# Altium schematic symbol library SFT_V4.SchLib: 92 symbols (part 1 of 2)
Pins are listed as number, name and electrical type; pins without a type are passive.

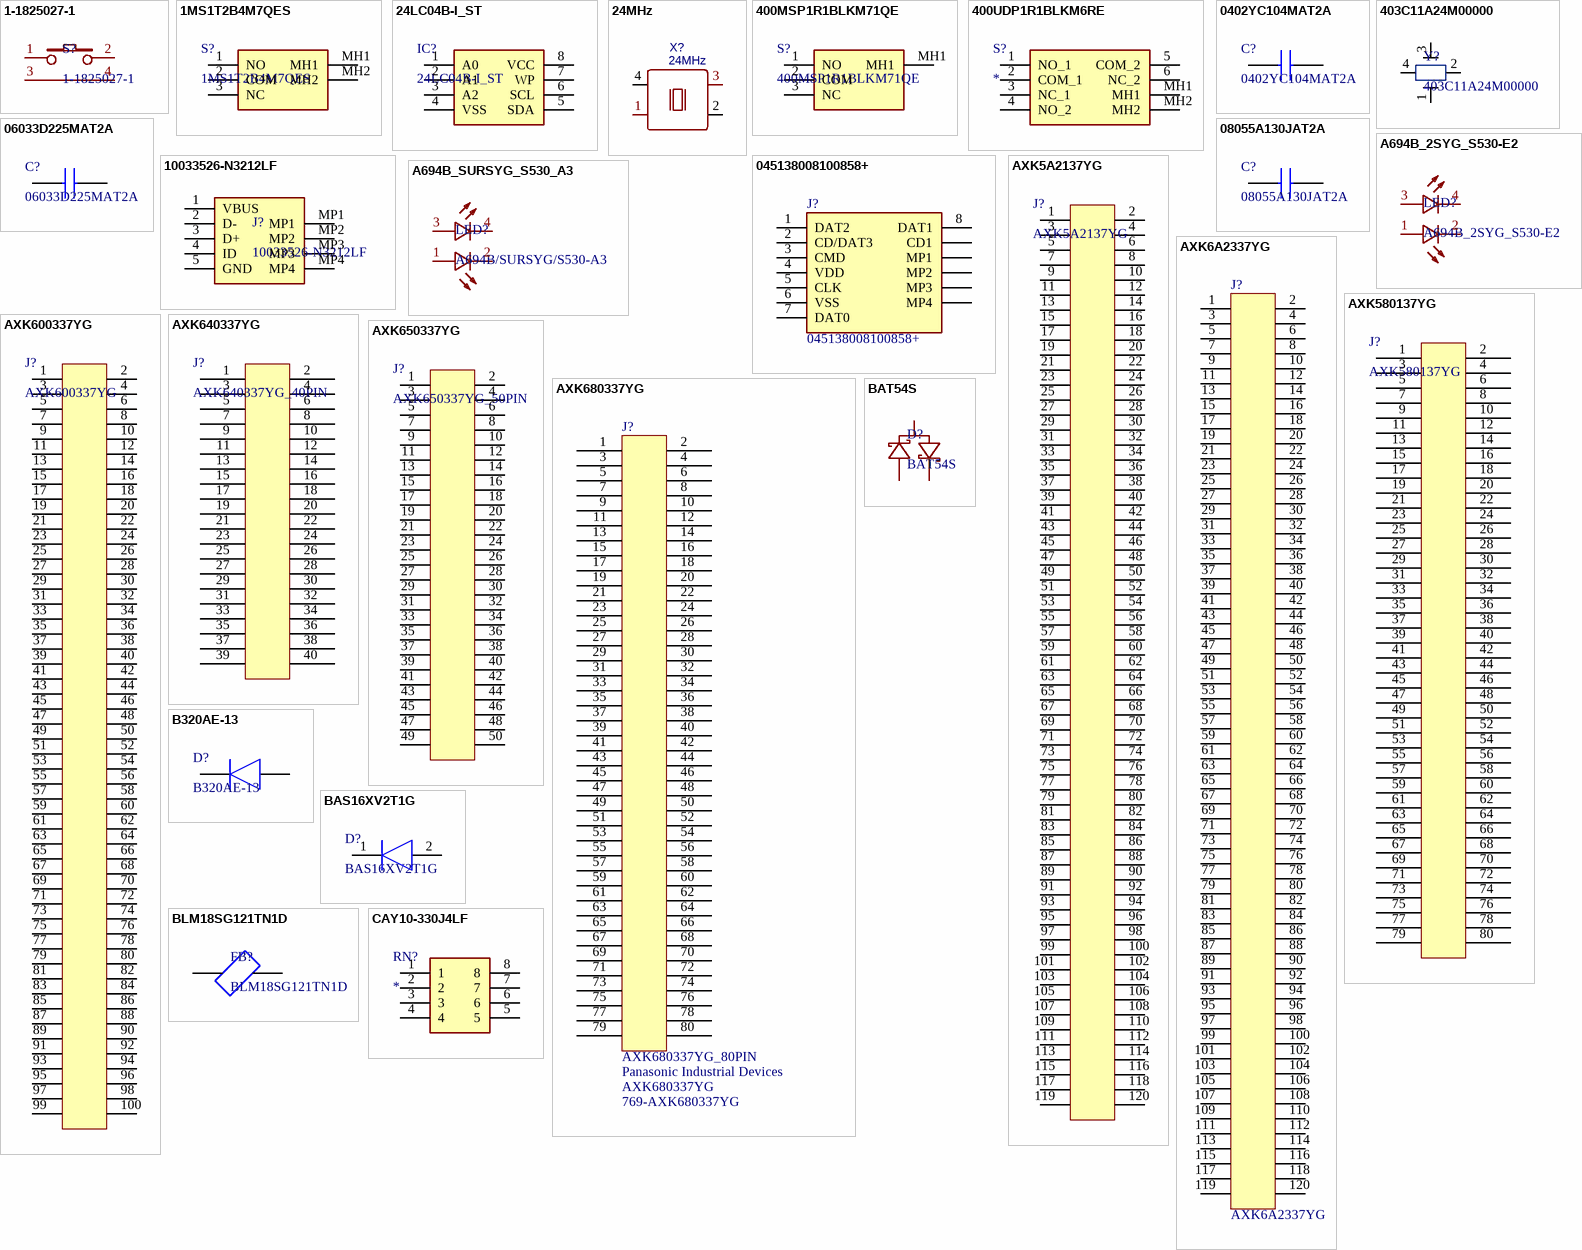
[diagram p0: symbols 1-1825027-1 to CAY10-330J4LF]

## 1-1825027-1
designator S?
Switch; Manufacturer_Name: TE Connectivity; Manufacturer_Part_Number: FSMRA4JH04; Datasheet Link: https://www.te.com/commerce/DocumentDelivery/DDEController?Action=srchrtrv&DocNm=1308111-1_SWITCHES_CORE_PROGRAM_CATALOG&DocType=CS&DocLang=English; Height: 7.01mm; Mouser Part Number: 506-FSMRA4JH04; Mouser Price/Stock: https://www.mouser.co.uk/ProductDetail/TE-Connectivity-Alcoswitch/FSMRA4JH04?qs=65SUpkGmTbapQKkEnx7SmQ%3D%3D; Arrow Part Number: 1-1825027-1; Arrow Price/Stock: https://www.arrow.com/en/products/1-1825027-1/te-connectivity
footprint 1825027-5
pins: 1, 2, 3 MH1, 4 MH2

## 1MS1T2B4M7QES
designator S?
Switch; Manufacturer_Name: Dailywell; Datasheet Link: https://eu.mouser.com/datasheet/2/979/Dailywell_10082019_1M_Series-1660460.pdf; Height: 12.7mm; Manufacturer_Part_Number: 1MS1T2B4M7QES; Mouser Part Number: 118-1MS1T2B4M7QES; Mouser Price/Stock: https://www.mouser.co.uk/ProductDetail/Dailywell/1MS1T2B4M7QES?qs=B6kkDfuK7%2FDAzh1Hupc3FQ%3D%3D
footprint 1MS1T2B4M7QES
pins: 1 NO, 2 COM, 3 NC, MH1, MH2

## 24LC04B-I_ST
designator IC?
Integrated Circuit; Manufacturer_Name: Microchip; Manufacturer_Part_Number: 24LC04B-I/ST; Datasheet Link: http://www.microchip.com/mymicrochip/filehandler.aspx?ddocname=en011857; Height: 1.1mm; Mouser Part Number: 579-24LC04B-I/ST; Mouser Price/Stock: https://www.mouser.co.uk/ProductDetail/Microchip-Technology/24LC04B-I-ST?qs=qUiwOUCta0cszSu5zjMtgA%3D%3D; Arrow Part Number: 24LC04B-I/ST; Arrow Price/Stock: https://www.arrow.com/en/products/24lc04b-ist/microchip-technology
footprint SOP65P490X110-8N
pins: 1 A0, 2 A1, 3 A2, 4 VSS, 5 SDA, 6 SCL, 7 WP, 8 VCC

## 24MHz
designator X?
BOM_Manufacturer: TAITIEN Elec; BOM_Manufacturer Part: OXETGLJANF-24MHZ; nameAlias: Frequency; Contributor: LCSC; BOM_Supplier: LCSC; BOM_Supplier Part: C295524; BOM_JLCPCB Part Class: Extended Part; spicePre: X; spiceSymbolName: OXETGLJANF-24MHZ
footprint OSC-SMD_4P-L3.2-W2.5-BL
pins: 1 tri, 2 GND, 3 OUT, 4 VCC

## 400MSP1R1BLKM71QE
designator S?
Rocket Switch; Manufacturer_Name: Dailywell; Manufacturer_Part_Number: 1MS1T2B4M7QES; Datasheet Link: https://eu.mouser.com/datasheet/2/979/Dailywell_10082019_1M_Series-1660460.pdf; Height: 12.7mm; Mouser Part Number: 118-1MS1T2B4M7QES; Mouser Price/Stock: https://www.mouser.co.uk/ProductDetail/Dailywell/1MS1T2B4M7QES?qs=B6kkDfuK7%2FDAzh1Hupc3FQ%3D%3D
footprint 400MSP1R1BLKM71QE
pins: 1 NO, 2 COM, 3 NC, MH1

## 400UDP1R1BLKM6RE
designator S?
Switch; Manufacturer_Name: E-Switch; Manufacturer_Part_Number: 400UDP1R1BLKM6RE; Datasheet Link: http://spec_sheets.e-switch.com/specs/T480001.pdf; Height: 5.6mm; Mouser Part Number: 612-400UDP1R1BLKM6RE; Mouser Price/Stock: https://www.mouser.co.uk/ProductDetail/E-Switch/400UDP1R1BLKM6RE?qs=nHKQP18abP9OIqkqYZA1ag%3D%3D
footprint 400UDP1R1BLKM6RE
pins: 1 NO_1, 2 COM_1, 3 NC_1, 4 NO_2, 5 COM_2, 6 NC_2, MH1, MH2

## 0402YC104MAT2A
designator C?
Capacitor; Manufacturer_Name: AVX; Datasheet Link: http://www.mouser.com/catalog/supplier/library/pdf/AVXSurfaceMountCeramic.pdf; Height: 0.56mm; Manufacturer_Part_Number: 0402YC104MAT2A; Mouser Part Number: 581-0402YC104MAT2A; Mouser Price/Stock: https://www.mouser.co.uk/ProductDetail/AVX/0402YC104MAT2A?qs=O2%2FeDh0sX9yiCaLwpXy1bw%3D%3D
footprint CAP_0402
pins: 1, 2

## 403C11A24M00000
designator Y?
Crystal or Oscillator; Manufacturer_Name: CTS; Datasheet Link: https://datasheet.datasheetarchive.com/originals/dk/DKDS-12/236325.pdf; Height: 0.75mm; Manufacturer_Part_Number: 403C11A24M00000; Mouser Part Number: 774-403C11A24M00000; Mouser Price/Stock: https://www.mouser.co.uk/ProductDetail/CTS-Electronic-Components/403C11A24M00000?qs=9D%2FjjU8ZSZ6G6K4SP5chGw%3D%3D; Arrow Part Number: 403C11A24M00000; Arrow Price/Stock: https://www.arrow.com/en/products/403c11a24m00000/cts
footprint 403C11A20M00000
pins: 1 CRYSTAL_1, 2 GND_1, 3 CRYSTAL_2, 4 GND_2

## 06033D225MAT2A
designator C?
Capacitor; Manufacturer_Name: AVX; Datasheet Link: https://componentsearchengine.com/Datasheets/1/06031A100FAT2A.pdf; Height: 0.9mm; Manufacturer_Part_Number: 06033D225MAT2A; Mouser Part Number: 581-06033D225MAT2A; Mouser Price/Stock: https://www.mouser.co.uk/ProductDetail/AVX/06033D225MAT2A?qs=%252BdQmOuGyFcGllV0VA4zyxA%3D%3D
footprint CAPC1608X90N
pins: 1, 2

## 08055A130JAT2A
designator C?
Capacitor; Manufacturer_Name: AVX; Datasheet Link: https://componentsearchengine.com/Datasheets/1/06031A100FAT2A.pdf; Height: 0.94mm; Manufacturer_Part_Number: 08055A130JAT2A; Mouser Part Number: 581-08055A130JAT2A; Mouser Price/Stock: https://www.mouser.com/Search/Refine.aspx?Keyword=581-08055A130JAT2A
footprint CAPC2012X94N
pins: 1, 2

## 10033526-N3212LF
designator J?
Connector; Manufacturer_Name: Amphenol; Datasheet Link: https://www.amphenol-icc.com/media/wysiwyg/files/drawing/10033526.pdf; Height: 4.15mm; Manufacturer_Part_Number: 10033526-N3212LF; Mouser Part Number: 649-10033526-N3212LF; Mouser Price/Stock: https://www.mouser.co.uk/ProductDetail/Amphenol-FCI/10033526-N3212LF?qs=LmzVcvYPptRTPTxae6JWyQ%3D%3D; Arrow Part Number: 10033526-N3212LF; Arrow Price/Stock: https://www.arrow.com/en/products/10033526-n3212lf/amphenol-fci?region=nac
footprint 10033526N3212LF
pins: 1 VBUS, 2 D-, 3 D+, 4 ID, 5 GND, MP1, MP2, MP3, MP4

## 045138008100858+
designator J?
Connector; Manufacturer_Name: AVX; Datasheet Link: https://www.mouser.sg/datasheet/2/909/5138-1359342.pdf; Height: 1.4mm; Manufacturer_Part_Number: 045138008100858+; Mouser Price/Stock: https://www.mouser.com/Search/Refine.aspx?Keyword=581-045138008100858%2B; Arrow Part Number: 045138008100858+; Arrow Price/Stock: https://www.arrow.com/en/products/045138008100858/avx; Mouser Part Number: 581-045138008100858+
footprint TF01A
footprint 045138008100858
pins: 1 DAT2, 2 CD/DAT3, 3 CMD, 4 VDD, 5 CLK, 6 VSS, 7 DAT0, 8 DAT1, CD1, MP1, MP2, MP3, MP4

## A694B_2SYG_S530-E2
designator LED?
LED; Manufacturer_Name: Everlight; Manufacturer_Part_Number: A694B/2SYG/S530-E2; Datasheet Link: https://datasheet.datasheetarchive.com/originals/distributors/Datasheets-3/DSA-53330.pdf; Height: 9.9mm; Mouser Part Number: 638-A694B2SYGS530E2; Mouser Price/Stock: https://www.mouser.com/Search/Refine.aspx?Keyword=638-A694B2SYGS530E2
footprint A694B2SYGS530E2
pins: 1 A1, 2 K1, 3 A2, 4 K2

## A694B_SURSYG_S530_A3
designator LED?, comment A694B/SURSYG/S530-A3
LED; Manufacturer_Name: Everlight; Datasheet Link: https://datasheet.datasheetarchive.com/originals/distributors/Datasheets-3/DSA-53330.pdf; Height: 9.9mm; Manufacturer_Part_Number: A694B/SURSYG/S530-A3
footprint A694B_SURSYG_S530_A3
pins: 1 A1, 2 K1, 3 A2, 4 K2

## AXK5A2137YG
designator J?
Connector; Manufacturer_Name: Panasonic Industrial Devices; Manufacturer_Part_Number: AXK5A2137YG; Mouser Part Number: 769-AXK5A2137YG
footprint AXK5A2137YG
pins: 1, 2, 3, 4, 5, 6, 7, 8, 9, 10, 11, 12, 13, 14, 15, 16, 17, 18, 19, 20, 21, 22, 23, 24, 25, 26, 27, 28, 29, 30, 31, 32, 33, 34, 35, 36, 37, 38, 39, 40, 41, 42, 43, 44, 45, 46, 47, 48, 49, 50, 51, 52, 53, 54, 55, 56, 57, 58, 59, 60, 61, 62, 63, 64, 65, 66, 67, 68, 69, 70, 71, 72, 73, 74, 75, 76, 77, 78, 79, 80, 81, 82, 83, 84, 85, 86, 87, 88, 89, 90, 91, 92, 93, 94, 95, 96, 97, 98, 99, 100, 101, 102, 103, 104, 105, 106, 107, 108, 109, 110, 111, 112, 113, 114, 115, 116, 117, 118, 119, 120

## AXK6A2337YG
designator J?
Board to Board & Mezzanine Connectors CONN HEADER BRD/BRD 120 POS 0.5mm; Manufacturer_Name: Panasonic Industrial Devices; ComponentLink1Description: Datasheet Link; ComponentLink1URL: https://www.mouser.co.uk/datasheet/2/315/AXK-1196653.pdf; Manufacturer_Part_Number: AXK6A2337YG; Mouser Part Number: 769-AXK6A2337YG
footprint AXK6A2337YG
pins: 1, 2, 3, 4, 5, 6, 7, 8, 9, 10, 11, 12, 13, 14, 15, 16, 17, 18, 19, 20, 21, 22, 23, 24, 25, 26, 27, 28, 29, 30, 31, 32, 33, 34, 35, 36, 37, 38, 39, 40, 41, 42, 43, 44, 45, 46, 47, 48, 49, 50, 51, 52, 53, 54, 55, 56, 57, 58, 59, 60, 61, 62, 63, 64, 65, 66, 67, 68, 69, 70, 71, 72, 73, 74, 75, 76, 77, 78, 79, 80, 81, 82, 83, 84, 85, 86, 87, 88, 89, 90, 91, 92, 93, 94, 95, 96, 97, 98, 99, 100, 101, 102, 103, 104, 105, 106, 107, 108, 109, 110, 111, 112, 113, 114, 115, 116, 117, 118, 119, 120

## AXK580137YG
designator J?
Connector; Manufacturer_Name: Panasonic Industrial Devices; Manufacturer_Part_Number: AXK580137YG; Mouser Part Number: 769-AXK580137YG
footprint AXK580147YG (AXK5A2137YG)
pins: 1, 2, 3, 4, 5, 6, 7, 8, 9, 10, 11, 12, 13, 14, 15, 16, 17, 18, 19, 20, 21, 22, 23, 24, 25, 26, 27, 28, 29, 30, 31, 32, 33, 34, 35, 36, 37, 38, 39, 40, 41, 42, 43, 44, 45, 46, 47, 48, 49, 50, 51, 52, 53, 54, 55, 56, 57, 58, 59, 60, 61, 62, 63, 64, 65, 66, 67, 68, 69, 70, 71, 72, 73, 74, 75, 76, 77, 78, 79, 80

## AXK600337YG
designator J?
Connector
footprint AXK600337YG (AXK6A2337YG)
pins: 1, 2, 3, 4, 5, 6, 7, 8, 9, 10, 11, 12, 13, 14, 15, 16, 17, 18, 19, 20, 21, 22, 23, 24, 25, 26, 27, 28, 29, 30, 31, 32, 33, 34, 35, 36, 37, 38, 39, 40, 41, 42, 43, 44, 45, 46, 47, 48, 49, 50, 51, 52, 53, 54, 55, 56, 57, 58, 59, 60, 61, 62, 63, 64, 65, 66, 67, 68, 69, 70, 71, 72, 73, 74, 75, 76, 77, 78, 79, 80, 81, 82, 83, 84, 85, 86, 87, 88, 89, 90, 91, 92, 93, 94, 95, 96, 97, 98, 99, 100

## AXK640337YG
designator J?, comment AXK640337YG_40PIN
Connector
footprint AXK650337YG (AXK6A2337YG)
pins: 1, 2, 3, 4, 5, 6, 7, 8, 9, 10, 11, 12, 13, 14, 15, 16, 17, 18, 19, 20, 21, 22, 23, 24, 25, 26, 27, 28, 29, 30, 31, 32, 33, 34, 35, 36, 37, 38, 39, 40

## AXK650337YG
designator J?, comment AXK650337YG_50PIN
Connector
footprint AXK650337YG (AXK6A2337YG)
pins: 1, 2, 3, 4, 5, 6, 7, 8, 9, 10, 11, 12, 13, 14, 15, 16, 17, 18, 19, 20, 21, 22, 23, 24, 25, 26, 27, 28, 29, 30, 31, 32, 33, 34, 35, 36, 37, 38, 39, 40, 41, 42, 43, 44, 45, 46, 47, 48, 49, 50

## AXK680337YG
designator J?, comment AXK680337YG_80PIN  Manufacturer_Name: Panasonic Industrial Devices  Manufacturer_Part_Number: AXK680337YG  Mouser Part Number: 769-AXK680337YG
Board to Board & Mezzanine Connectors CONN HEADER BRD/BRD 80 POS 0.5mm
footprint AXK680337YG (AXK680337YG_80PIN)
pins: 1, 2, 3, 4, 5, 6, 7, 8, 9, 10, 11, 12, 13, 14, 15, 16, 17, 18, 19, 20, 21, 22, 23, 24, 25, 26, 27, 28, 29, 30, 31, 32, 33, 34, 35, 36, 37, 38, 39, 40, 41, 42, 43, 44, 45, 46, 47, 48, 49, 50, 51, 52, 53, 54, 55, 56, 57, 58, 59, 60, 61, 62, 63, 64, 65, 66, 67, 68, 69, 70, 71, 72, 73, 74, 75, 76, 77, 78, 79, 80

## B320AE-13
designator D?
Diode; Manufacturer_Name: Diodes Inc.; Datasheet Link: http://www.mouser.com/ds/2/115/ds30891-89887.pdf; Height: 2.3mm; Manufacturer_Part_Number: B320AE-13; Mouser Part Number: 621-B320AE-13; Mouser Price/Stock: https://www.mouser.co.uk/ProductDetail/Diodes-Incorporated/B320AE-13?qs=AQlKX63v8RvRuCl5kwaWYg%3D%3D; Arrow Part Number: B320AE-13; Arrow Price/Stock: https://www.arrow.com/en/products/b320ae-13/diodes-incorporated
footprint DIONM5226X230N
pins: 1 K, 2 A

## BAS16XV2T1G
designator D?
Diode; Manufacturer_Name: ON Semiconductor; Datasheet Link: http://www.onsemi.com/pub/Collateral/BAS16XV2T1-D.PDF; Height: 0.7mm; Manufacturer_Part_Number: BAS16XV2T1G; Mouser Part Number: 863-BAS16XV2T1G; Mouser Price/Stock: https://www.mouser.co.uk/ProductDetail/ON-Semiconductor/BAS16XV2T1G?qs=vLkC5FC1VN%2F9AQiVzTiohw%3D%3D; Arrow Part Number: BAS16XV2T1G; Arrow Price/Stock: https://www.arrow.com/en/products/bas16xv2t1g/on-semiconductor?region=nac
footprint SODFL1608X70N
pins: 1 K, 2 A

## BAT54S
designator D?
Schottky Diode; Manufacturer_Name: ON Semiconductor; Datasheet Link: http://www.onsemi.com/pub/Collateral/BAT54S-D.pdf; Height: 1.2mm; Manufacturer_Part_Number: BAT54S; Mouser Part Number: 512-BAT54S; Mouser Price/Stock: https://www.mouser.co.uk/ProductDetail/ON-Semiconductor-Fairchild/BAT54S?qs=WjC1ij5gCHN3lvcpF9iNwQ%3D%3D; Arrow Part Number: BAT54S; Arrow Price/Stock: https://www.arrow.com/en/products/bat54s/on-semiconductor
footprint SOT95P240X120-3N
pins: 1 A, 2 K, 3

## BLM18SG121TN1D
designator FB?
Ferrite Bead; Manufacturer_Name: Murata Electronics; Datasheet Link: https://www.murata.com/en-us/products/productdetail?partno=BLM18SG121TN1%23; Height: 0.75mm; Manufacturer_Part_Number: BLM18SG121TN1D; Mouser Part Number: 81-BLM18SG121TN1D; Mouser Price/Stock: https://www.mouser.co.uk/ProductDetail/Murata-Electronics/BLM18SG121TN1D?qs=OMB6gcCnelWdy%252B7xRA0fBw%3D%3D; Arrow Part Number: BLM18SG121TN1D; Arrow Price/Stock: https://www.arrow.com/en/products/blm18sg121tn1d/murata-manufacturing?region=nac
footprint BLM18SG121TN1J
pins: 1, 2

## CAY10-330J4LF
designator RN?
Resistor Network; Manufacturer_Name: Bourns; Manufacturer_Part_Number: CAY10-330J4LF; Datasheet Link: https://www.bourns.com/docs/Product-Datasheets/CAY10.pdf; Mouser Part Number: 652-CAY10-330J4LF; Mouser Price/Stock: https://www.mouser.co.uk/ProductDetail/Bourns/CAY10-330J4LF?qs=Rsc32mLZm2WgHph2r1aqpQ%3D%3D; Arrow Part Number: CAY10-330J4LF; Arrow Price/Stock: https://www.arrow.com/en/products/cay10-330j4lf/bourns
footprint CAY10-XXXJ4
pins: 1, 2, 3, 4, 5, 6, 7, 8

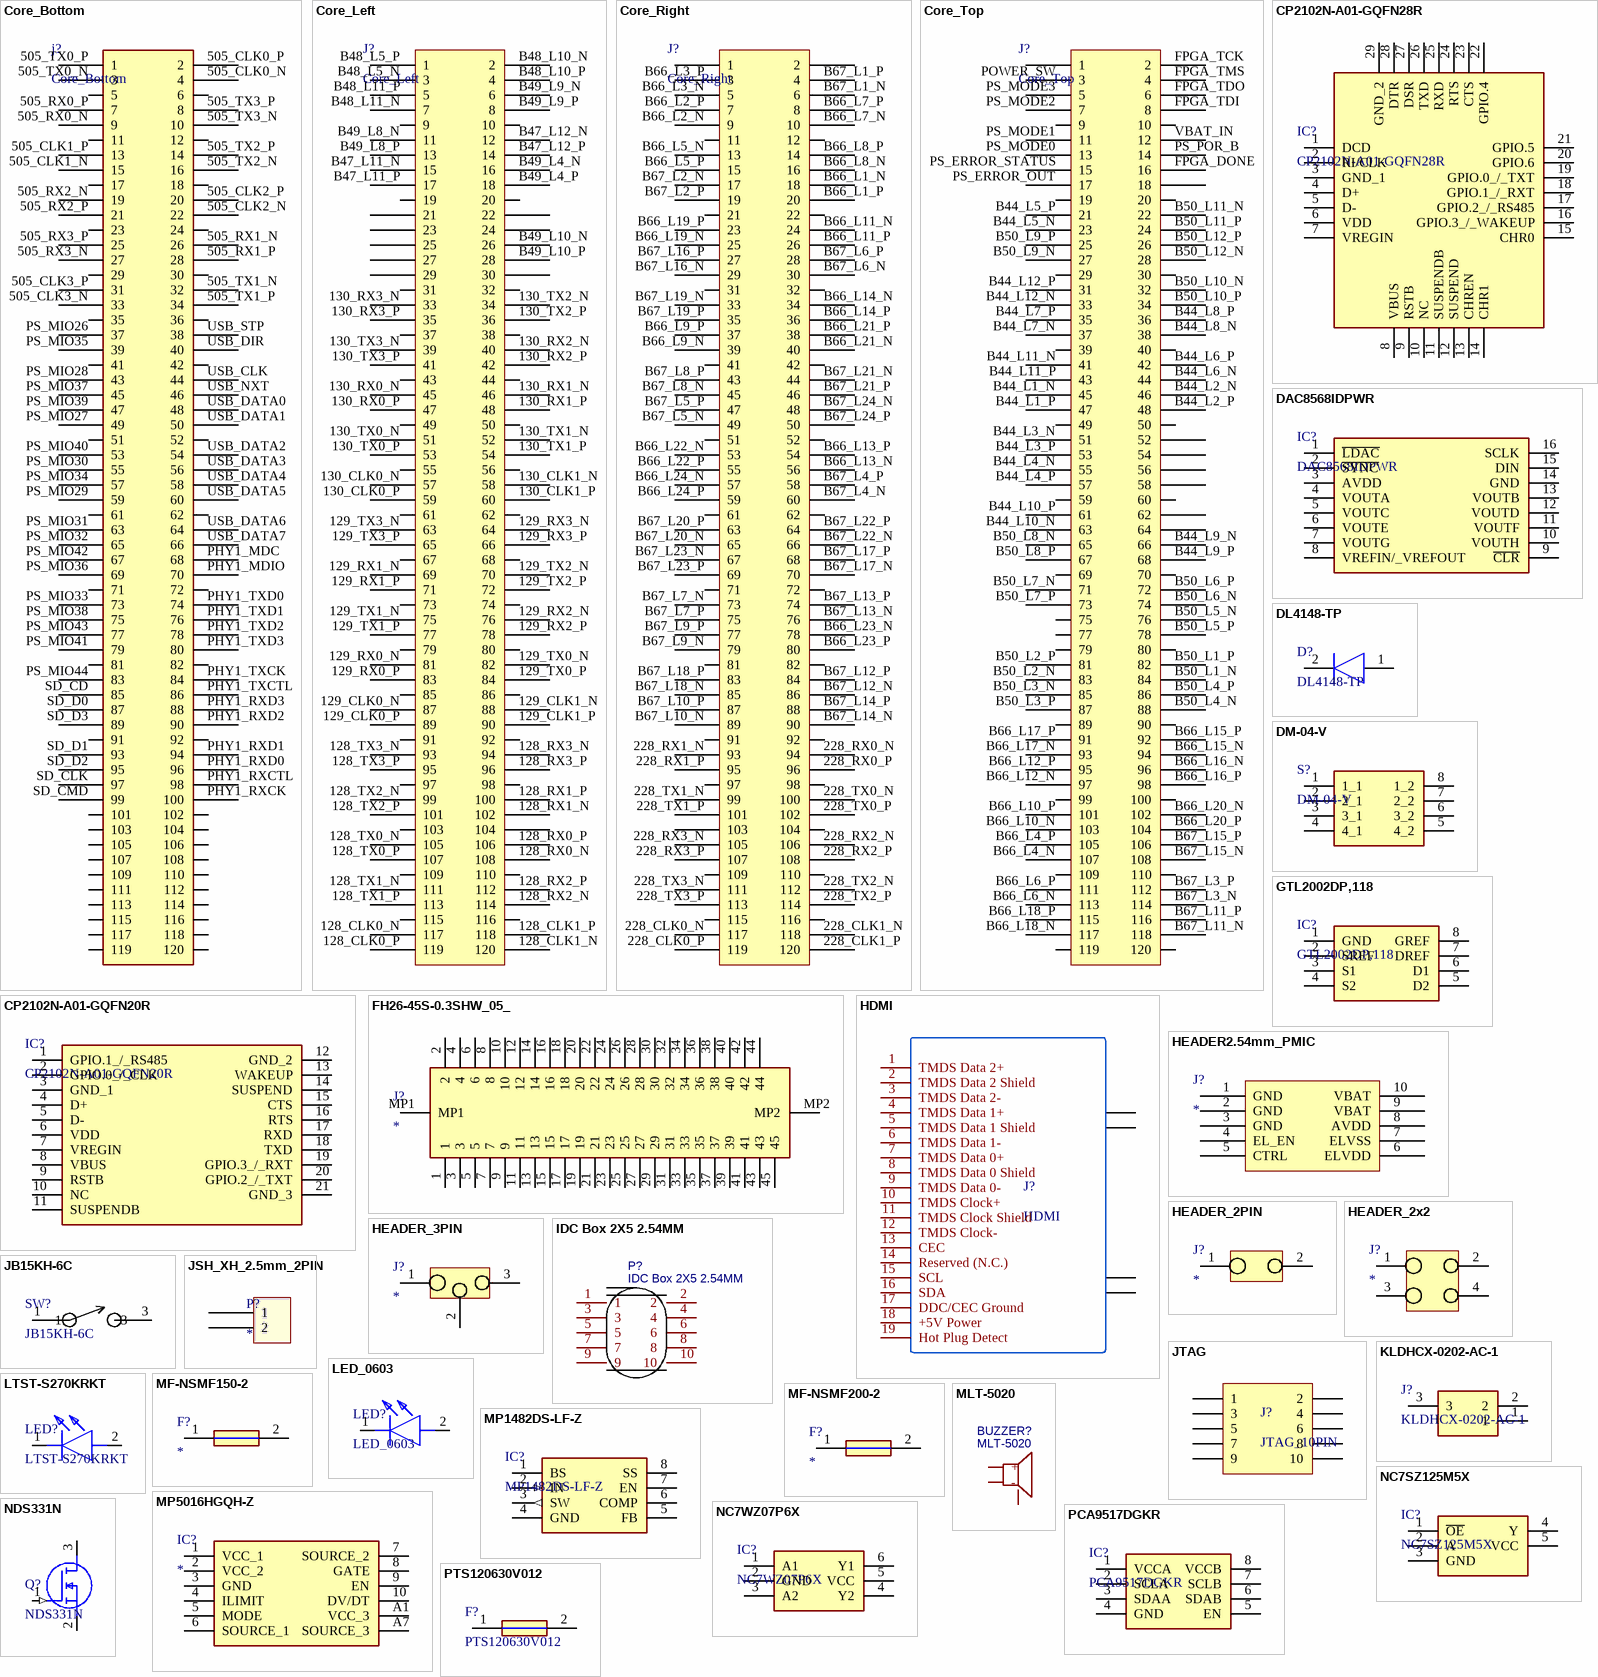
[diagram p1: symbols Core_Bottom to PTS120630V012]

## Core_Bottom
designator j?
footprint AXK6A2337YG
pins: 5 (power), 6 (power), 11 (power), 12 (power), 17 (power), 18 (power), 23 (power), 24 (power), 29 (power), 30 (power), 35 (power), 36 (power), 41 (power), 42 (power), 51 (power), 52 (power), 61 (power), 62 (power), 71 (power), 72 (power), 81 (power), 82 (power), 91 (power), 92 (power), 101 (power), 102 (power), 103 (power), 104 (power), 105 (power), 106 (power), 107 (power), 108 (power), 109 (power), 110 (power), 111 (power), 112 (power), 113 (power), 114 (power), 115 (power), 116 (power), 117 (power), 118 (power), 119 (power), 120 (power), 505_CLK0_N 4, 505_CLK0_P 2, 505_CLK1_N 15, 505_CLK1_P 13, 505_CLK2_N 22, 505_CLK2_P 20, 505_CLK3_N 33, 505_CLK3_P 31, 505_RX0_N 9, 505_RX0_P 7, 505_RX1_N 26, 505_RX1_P 28, 505_RX2_N 19, 505_RX2_P 21, 505_RX3_N 27, 505_RX3_P 25, 505_TX0_N 3, 505_TX0_P 1, 505_TX1_N 32, 505_TX1_P 34, 505_TX2_N 16, 505_TX2_P 14, 505_TX3_N 10, 505_TX3_P 8, PHY1_MDC 68, PHY1_MDIO 70, PHY1_RXCK 100, PHY1_RXCTL 98, PHY1_RXD0 96, PHY1_RXD1 94, PHY1_RXD2 90, PHY1_RXD3 88, PHY1_TXCK 84, PHY1_TXCTL 86, PHY1_TXD0 74, PHY1_TXD1 76, PHY1_TXD2 78, PHY1_TXD3 80, PS_MIO26 37, PS_MIO27 49, PS_MIO28 43, PS_MIO29 59, PS_MIO30 55, PS_MIO31 63, PS_MIO32 65, PS_MIO33 73, PS_MIO34 57, PS_MIO35 39, PS_MIO36 69, PS_MIO37 45, PS_MIO38 75, PS_MIO39 47, PS_MIO40 53, PS_MIO41 79, PS_MIO42 67, PS_MIO43 77, PS_MIO44 83, SD_CD 85, SD_CLK 97, SD_CMD 99, SD_D0 87, SD_D1 93, SD_D2 95, SD_D3 89, USB_CLK 44, USB_DATA0 48, USB_DATA1 50, USB_DATA2 54, USB_DATA3 56, USB_DATA4 58, USB_DATA5 60, USB_DATA6 64, USB_DATA7 66, USB_DIR 40, USB_NXT 46, USB_STP 38

## Core_Left
designator J?
footprint AXK6A2337YG
pins: 9 (power), 10 (power), 19 (power), 20 (power), 21, 22, 23, 24, 25, 27, 29, 30, 31 (power), 32 (power), 37 (power), 38 (power), 43 (power), 44 (power), 49 (power), 50 (power), 55 (power), 56 (power), 61 (power), 62 (power), 67 (power), 68 (power), 73 (power), 74 (power), 79 (power), 80 (power), 85 (power), 86 (power), 91 (power), 92 (power), 97 (power), 98 (power), 103 (power), 104, 109 (power), 110 (power), 115 (power), 116 (power), 128_CLK0_N 117, 128_CLK0_P 119, 128_CLK1_N 120, 128_CLK1_P 118, 128_RX0_N 108, 128_RX0_P 106, 128_RX1_N 102, 128_RX1_P 100, 128_RX2_N 114, 128_RX2_P 112, 128_RX3_N 94, 128_RX3_P 96, 128_TX0_N 105, 128_TX0_P 107, 128_TX1_N 111, 128_TX1_P 113, 128_TX2_N 99, 128_TX2_P 101, 128_TX3_N 93, 128_TX3_P 95, 129_CLK0_N 87, 129_CLK0_P 89, 129_CLK1_N 88, 129_CLK1_P 90, 129_RX0_N 81, 129_RX0_P 83, 129_RX1_N 69, 129_RX1_P 71, 129_RX2_N 76, 129_RX2_P 78, 129_RX3_N 64, 129_RX3_P 66, 129_TX0_N 82, 129_TX0_P 84, 129_TX1_N 75, 129_TX1_P 77, 129_TX2_N 70, 129_TX2_P 72, 129_TX3_N 63, 129_TX3_P 65, 130_CLK0_N 57, 130_CLK0_P 59, 130_CLK1_N 58, 130_CLK1_P 60, 130_RX0_N 45, 130_RX0_P 47, 130_RX1_N 46, 130_RX1_P 48, 130_RX2_N 40, 130_RX2_P 42, 130_RX3_N 33, 130_RX3_P 35, 130_TX0_N 51, 130_TX0_P 53, 130_TX1_N 52, 130_TX1_P 54, 130_TX2_N 34, 130_TX2_P 36, 130_TX3_N 39, 130_TX3_P 41, B47_L11_N 15, B47_L11_P 17, B47_L12_N 12, B47_L12_P 14, B48_L5_N 3, B48_L5_P 1, B48_L10_N 2, B48_L10_P 4, B48_L11_N 7, B48_L11_P 5, B49_L4_N 16, B49_L4_P 18, B49_L8_N 11, B49_L8_P 13, B49_L9_N 6, B49_L9_P 8, B49_L10_N 26, B49_L10_P 28

## Core_Right
designator J?
footprint AXK6A2337YG
pins: 1, 2, 11 (power), 12 (power), 21 (power), 22 (power), 31 (power), 32 (power), 41 (power), 42 (power), 51 (power), 52 (power), 61 (power), 62 (power), 71 (power), 72 (power), 81 (power), 82 (power), 91 (power), 92 (power), 97 (power), 98 (power), 103 (power), 104 (power), 109 (power), 110 (power), 115 (power), 116 (power), 228_CLK0_N 117, 228_CLK0_P 119, 228_CLK1_N 118, 228_CLK1_P 120, 228_RX0_N 94, 228_RX0_P 96, 228_RX1_N 93, 228_RX1_P 95, 228_RX2_N 106, 228_RX2_P 108, 228_RX3_N 105, 228_RX3_P 107, 228_TX0_N 100, 228_TX0_P 102, 228_TX1_N 99, 228_TX1_P 101, 228_TX2_N 112, 228_TX2_P 114, 228_TX3_N 111, 228_TX3_P 113, B66_L1_N 18, B66_L1_P 20, B66_L2_N 9, B66_L2_P 7, B66_L3_N 5, B66_L3_P 3, B66_L5_N 13, B66_L5_P 15, B66_L7_N 10, B66_L7_P 8, B66_L8_N 16, B66_L8_P 14, B66_L9_N 39, B66_L9_P 37, B66_L11_N 24, B66_L11_P 26, B66_L13_N 56, B66_L13_P 54, B66_L14_N 34, B66_L14_P 36, B66_L19_N 25, B66_L19_P 23, B66_L21_N 40, B66_L21_P 38, B66_L22_N 53, B66_L22_P 55, B66_L23_N 78, B66_L23_P 80, B66_L24_N 57, B66_L24_P 59, B67_L1_N 6, B67_L1_P 4, B67_L2_N 17, B67_L2_P 19, B67_L4_N 60, B67_L4_P 58, B67_L5_N 49, B67_L5_P 47, B67_L6_N 30, B67_L6_P 28, B67_L7_N 73, B67_L7_P 75, B67_L8_N 45, B67_L8_P 43, B67_L9_N 79, B67_L9_P 77, B67_L10_N 89, B67_L10_P 87, B67_L12_N 86, B67_L12_P 84, B67_L13_N 76, B67_L13_P 74, B67_L14_N 90, B67_L14_P 88, B67_L16_N 29, B67_L16_P 27, B67_L17_N 70, B67_L17_P 68, B67_L18_N 85, B67_L18_P 83, B67_L19_N 33, B67_L19_P 35, B67_L20_N 65, B67_L20_P 63, B67_L21_N 44, B67_L21_P 46, B67_L22_N 66, B67_L22_P 64, B67_L23_N 67, B67_L23_P 69, B67_L24_N 48, B67_L24_P 50

## Core_Top
designator J?
footprint AXK6A2337YG
pins: 1, 9 (power), 10 (power), 18, 19 (power), 20 (power), 29 (power), 30 (power), 39 (power), 40 (power), 49 (power), 50 (power), 52, 54, 56, 58, 59 (power), 60 (power), 62, 64, 69 (power), 70 (power), 75 (power), 77 (power), 79 (power), 80 (power), 89 (power), 90 (power), 99 (power), 100 (power), 109 (power), 110 (power), 119 (power), 120 (power), B44_L1_N 45, B44_L1_P 47, B44_L2_N 46, B44_L2_P 48, B44_L3_N 51, B44_L3_P 53, B44_L4_N 55, B44_L4_P 57, B44_L5_N 23, B44_L5_P 21, B44_L6_N 44, B44_L6_P 42, B44_L7_N 37, B44_L7_P 35, B44_L8_N 38, B44_L8_P 36, B44_L9_N 66, B44_L9_P 68, B44_L10_N 63, B44_L10_P 61, B44_L11_N 41, B44_L11_P 43, B44_L12_N 33, B44_L12_P 31, B50_L1_N 84, B50_L1_P 82, B50_L2_N 83, B50_L2_P 81, B50_L3_N 85, B50_L3_P 87, B50_L4_N 88, B50_L4_P 86, B50_L5_N 76, B50_L5_P 78, B50_L6_N 74, B50_L6_P 72, B50_L7_N 71, B50_L7_P 73, B50_L8_N 65, B50_L8_P 67, B50_L9_N 27, B50_L9_P 25, B50_L10_N 32, B50_L10_P 34, B50_L11_N 22, B50_L11_P 24, B50_L12_N 28, B50_L12_P 26, B66_L4_N 107, B66_L4_P 105, B66_L6_N 113, B66_L6_P 111, B66_L10_N 103, B66_L10_P 101, B66_L12_N 97, B66_L12_P 95, B66_L15_N 94, B66_L15_P 92, B66_L16_N 96, B66_L16_P 98, B66_L17_N 93, B66_L17_P 91, B66_L18_N 117, B66_L18_P 115, B66_L20_N 102, B66_L20_P 104, B67_L3_N 114, B67_L3_P 112, B67_L11_N 118, B67_L11_P 116, B67_L15_N 108, B67_L15_P 106, FPGA_DONE 16, FPGA_TCK 2, FPGA_TDI 8, FPGA_TDO 6, FPGA_TMS 4, POWER_SW 3, PS_ERROR_OUT 17, PS_ERROR_STATUS 15, PS_MODE0 13, PS_MODE1 11, PS_MODE2 7, PS_MODE3 5, PS_POR_B 14, VBAT_IN 12

## CP2102N-A01-GQFN20R
designator IC?
Integrated Circuit; Manufacturer_Name: Silicon Labs; Datasheet Link: http://www.silabs.com/documents/public/data-sheets/cp2102n-datasheet.pdf; Height: 0.8mm; Manufacturer_Part_Number: CP2102N-A01-GQFN20R; Mouser Part Number: 634-CP21NA01GQFN20R; Mouser Price/Stock: https://www.mouser.co.uk/ProductDetail/Silicon-Labs/CP2102N-A01-GQFN20R?qs=eDRjYdeUVVk8quRq31jmtA%3D%3D; Arrow Part Number: CP2102N-A01-GQFN20R; Arrow Price/Stock: https://www.arrow.com/en/products/cp2102n-a01-gqfn20r/silicon-labs
footprint CP2102NA02GQFN20
pins: 1 GPIO.1_/_RS485, 2 GPIO.0_/_CLK, 3 GND_1, 4 D+, 5 D-, 6 VDD, 7 VREGIN, 8 VBUS, 9 RSTB, 10 NC, 11 SUSPENDB, 12 GND_2, 13 WAKEUP, 14 SUSPEND, 15 CTS, 16 RTS, 17 RXD, 18 TXD, 19 GPIO.3_/_RXT, 20 GPIO.2_/_TXT, 21 GND_3

## CP2102N-A01-GQFN28R
designator IC?
Integrated Circuit; Manufacturer_Name: Silicon Labs; Datasheet Link: https://mouser.componentsearchengine.com/Datasheets/1/CP2102N-A01-GQFN28R.pdf; Height: 0.8mm; Manufacturer_Part_Number: CP2102N-A01-GQFN28R; Mouser Part Number: 634-CP2102NA01GFN28R; Mouser Price/Stock: https://www.mouser.co.uk/ProductDetail/Silicon-Labs/CP2102N-A01-GQFN28R?qs=eDRjYdeUVVkY99yD6J42dg%3D%3D; Arrow Part Number: CP2102N-A01-GQFN28R; Arrow Price/Stock: https://www.arrow.com/en/products/cp2102n-a01-gqfn28r/silicon-labs
footprint QFN50P500X500X80-29N-D
pins: 1 DCD, 2 RI/CLK, 3 GND_1, 4 D+, 5 D-, 6 VDD, 7 VREGIN, 8 VBUS, 9 RSTB, 10 NC, 11 SUSPENDB, 12 SUSPEND, 13 CHREN, 14 CHR1, 15 CHR0, 16 GPIO.3_/_WAKEUP, 17 GPIO.2_/_RS485, 18 GPIO.1_/_RXT, 19 GPIO.0_/_TXT, 20 GPIO.6, 21 GPIO.5, 22 GPIO.4, 23 CTS, 24 RTS, 25 RXD, 26 TXD, 27 DSR, 28 DTR, 29 GND_2

## DAC8568IDPWR
designator IC?
Integrated Circuit; Manufacturer_Name: Texas Instruments; Datasheet Link: https://www.digikey.com/product-detail/en/texas-instruments/DAC8568IDPWR/DAC8568IDPWR-ND/2231750; Height: 1.2mm; Manufacturer_Part_Number: DAC8568IDPWR; Mouser Part Number: 595-DAC8568IDPWR; Mouser Price/Stock: https://www.mouser.co.uk/ProductDetail/Texas-Instruments/DAC8568IDPWR?qs=JxdSYA%2FPj%252BEiyinJQvqz%2FA%3D%3D; Arrow Part Number: DAC8568IDPWR; Arrow Price/Stock: https://www.arrow.com/en/products/dac8568idpwr/texas-instruments?region=nac
footprint SOP65P640X120-16N
pins: 1 ~{LDAC}, 2 ~{SYNC}, 3 AVDD, 4 VOUTA, 5 VOUTC, 6 VOUTE, 7 VOUTG, 8 VREFIN/_VREFOUT, 9 ~{CLR}, 10 VOUTH, 11 VOUTF, 12 VOUTD, 13 VOUTB, 14 GND, 15 DIN, 16 SCLK

## DL4148-TP
designator D?
Diode; Manufacturer_Name: Micro Commercial Components (MCC); Datasheet Link: http://www.farnell.com/datasheets/1684830.pdf; Height: 1.5mm; Manufacturer_Part_Number: DL4148-TP; Mouser Part Number: 833-DL4148-TP; Mouser Price/Stock: https://www.mouser.co.uk/ProductDetail/Micro-Commercial-Components-MCC/DL4148-TP?qs=2HbNQnvoB68pGZUJDHRB7A%3D%3D; Arrow Part Number: DL4148-TP; Arrow Price/Stock: https://www.arrow.com/en/products/dl4148-tp/micro-commercial-components
footprint DL4148TP
pins: 1 A, 2 K

## DM-04-V
designator S?
Switch; Manufacturer_Name: Diptronics; Datasheet Link: https://www.tme.eu/en/Document/3859235cbbc3386afa52bad431a134f4/DM-SERIES.pdf; Height: 3.76mm; Manufacturer_Part_Number: DM-04-V; Mouser Part Number: 113-DM04V; Mouser Price/Stock: https://www.mouser.co.uk/ProductDetail/Diptronics/DM-04-V?qs=MLItCLRbWsxXb%2F13ZGn1WA%3D%3D
footprint SOP254P980X376-8N
pins: 1 1_1, 2 2_1, 3 3_1, 4 4_1, 5 4_2, 6 3_2, 7 2_2, 8 1_2

## FH26-45S-0.3SHW_05_
designator J?
Connector; Manufacturer_Name: Hirose; Manufacturer_Part_Number: FH26-45S-0.3SHW(05); Datasheet Link: https://componentsearchengine.com/Datasheets/1/FH26-45S-0.3SHW(05).pdf; Height: 1mm; Mouser Part Number: 798-FH2645S0.3SHW05; Mouser Price/Stock: https://www.mouser.co.uk/ProductDetail/Hirose-Connector/FH26-45S-03SHW05?qs=0N%252BVULUZFj%252BV7Dz2YFmrkQ%3D%3D; Arrow Part Number: FH26-45S-0.3SHW(05); Arrow Price/Stock: https://www.arrow.com/en/products/fh26-45s-0.3shw-05/hirose-electric
footprint FH2645S03SHW05
pins: 1, 2, 3, 4, 5, 6, 7, 8, 9, 10, 11, 12, 13, 14, 15, 16, 17, 18, 19, 20, 21, 22, 23, 24, 25, 26, 27, 28, 29, 30, 31, 32, 33, 34, 35, 36, 37, 38, 39, 40, 41, 42, 43, 44, 45, MP1, MP2

## GTL2002DP,118
designator IC?
Integrated Circuit; Manufacturer_Name: NXP; Datasheet Link: http://www.nxp.com/docs/en/data-sheet/GTL2002.pdf; Height: 1.1mm; Manufacturer_Part_Number: GTL2002DP,118; Mouser Part Number: 771-GTL2002DP-T; Mouser Price/Stock: https://www.mouser.co.uk/ProductDetail/NXP-Semiconductors/GTL2002DP118?qs=me8TqzrmIYWpZiVWBbuqgQ%3D%3D; Arrow Part Number: GTL2002DP,118; Arrow Price/Stock: https://www.arrow.com/en/products/gtl2002dp118/nxp-semiconductors?region=nac
footprint SOP65P490X110-8N
pins: 1 GND, 2 SREF, 3 S1, 4 S2, 5 D2, 6 D1, 7 DREF, 8 GREF

## HDMI
designator J?
Connector; Manufacturer_Name: Amphenol; Manufacturer_Part_Number: 10029449-001RLF; Datasheet Link: https://cdn.amphenol-icc.com/media/wysiwyg/files/drawing/10029449.pdf; Height: 6.3mm; Mouser Part Number: 649-10029449-001RLF; Mouser Price/Stock: https://www.mouser.co.uk/ProductDetail/Amphenol-FCI/10029449-001RLF?qs=D%252By4jQJzx8L60NhBOOKSqQ%3D%3D; Arrow Part Number: 10029449-001RLF; Arrow Price/Stock: https://www.arrow.com/en/products/10029449-001rlf/amphenol-fci?region=nac
footprint HDMI_19PIN
pins: 1 TMDS Data 2+, 2 TMDS Data 2 Shield, 3 TMDS Data 2-, 4 TMDS Data 1+, 5 TMDS Data 1 Shield, 6 TMDS Data 1-, 7 TMDS Data 0+, 8 TMDS Data 0 Shield, 9 TMDS Data 0-, 10 TMDS Clock+, 11 TMDS Clock Shield, 12 TMDS Clock-, 13 CEC, 14 Reserved (N.C.), 15 SCL, 16 SDA, 17 DDC/CEC Ground, 18 +5V Power, 19 Hot Plug Detect, MH1, MH2, MH3, MH4

## HEADER2.54mm_PMIC
designator J?
Connector
footprint OLED_PMIC_2POWER_10P
pins: 1 GND, 2 GND, 3 GND, 4 EL_EN, 5 CTRL, 6 ELVDD, 7 ELVSS, 8 AVDD, 9 VBAT, 10 VBAT

## HEADER_2PIN
designator J?
Connector
footprint HEADER254_2P
pins: 1, 2

## HEADER_2x2
designator J?
Connector
footprint HEADER254_2R_4P
pins: 1, 2, 3, 4

## HEADER_3PIN
designator J?
Connector
footprint HEADER254_3P
pins: 1, 2, 3

## IDC Box 2X5 2.54MM
designator P?
BOM_Manufacturer: BOOMELE; BOM_Supplier: LCSC; BOM_Manufacturer Part: IDC Box 2X5 2.54MM; BOM_Supplier Part: C9140; BOM_JLCPCB Part Class: Extended Part; spicePre: P; spiceSymbolName: IDC Box 2X5 2.54MM
footprint IDC-TH_10P-P2.54-H-R2-C5-S2.54
pins: 1, 2, 3, 4, 5, 6, 7, 8, 9, 10

## JB15KH-6C
designator SW?
Button; Mfr_Name: NKK Switches; Copyright: Copyright (C) 2021 Ultra Librarian. All rights reserved.; Manufacturer_Part_Number: JB15KH-6C; RefDes: RefDes; Type: DEV
footprint SW_JB15KH_NKK
pins: 1, 3

## JSH_XH_2.5mm_2PIN
designator P?
JSH_XH_2.5mm_2PIN
footprint CON2_2_54P
pins: 1, 2

## JTAG
designator J?, comment JTAG_10PIN
footprint JTAG-10
pins: 1, 2, 3, 4, 5, 6, 7, 8, 9, 10

## KLDHCX-0202-AC-1
designator J?
Connector; Manufacturer_Name: Kycon; Datasheet Link: http://www.kycon.com/Pub_Eng_Draw/KLDX-0202-AC%20&%20BC.pdf; Height: 10.8mm; Manufacturer_Part_Number: KLDHCX-0202-AC-1; Mouser Part Number: 806-KLDHCX-0202-AC-1; Mouser Price/Stock: https://www.mouser.co.uk/ProductDetail/Kycon/KLDHCX-0202-AC-1?qs=T3oQrply3y%252B3Hw51h9G5tQ%3D%3D
footprint KLDHCX0202AC1
pins: 1, 2, 3

## LED_0603
designator LED?
LED; Manufacturer_Name: Wurth Elektronik; Manufacturer_Part_Number: 150060SS75000; Datasheet Link: http://docs-emea.rs-online.com/webdocs/1302/0900766b81302e1d.pdf; Height: 0.8mm; Mouser Part Number: 710-150060SS75000; Mouser Price/Stock: https://www.mouser.co.uk/ProductDetail/Wurth-Elektronik/150060SS75000?qs=LlUlMxKIyB0oQaxwspeTEA%3D%3D
footprint LEDC1608X80N
pins: 1 K, 2 A

## LTST-S270KRKT
designator LED?
LED; Manufacturer_Name: Lite-On; Datasheet Link: https://optoelectronics.liteon.com/upload/download/DS22-2000-210/LTST-S270KRKT.pdf; Height: 1mm; Manufacturer_Part_Number: LTST-S270KRKT; Mouser Part Number: 859-LTST-S270KRKT; Mouser Price/Stock: https://www.mouser.co.uk/ProductDetail/Lite-On/LTST-S270KRKT?qs=NUb82WqeCyrkrhATBGeB1A%3D%3D; Arrow Part Number: LTST-S270KRKT; Arrow Price/Stock: https://www.arrow.com/en/products/ltst-s270krkt/lite-on-technology?region=nac
footprint LTSTS270KRKT
pins: 1 K, 2 A

## MF-NSMF150-2
designator F?
Fuse; Manufacturer_Name: Bourns; Manufacturer_Part_Number: MF-NSMF150-2; Datasheet Link: https://componentsearchengine.com/Datasheets/2/MF-NSMF150-2.pdf; Height: 0.7mm; Mouser Part Number: 652-MF-NSMF150-2; Mouser Price/Stock: https://www.mouser.co.uk/ProductDetail/Bourns/MF-NSMF150-2?qs=7D1gp7DixNnY7uwZYOi52Q%3D%3D; Arrow Part Number: MF-NSMF150-2; Arrow Price/Stock: https://www.arrow.com/en/products/mf-nsmf150-2/bourns?region=nac
footprint FUSC3216X70N
pins: 1, 2

## MF-NSMF200-2
designator F?
Fuse; Manufacturer_Name: Bourns; Manufacturer_Part_Number: MF-NSMF200-2; Datasheet Link: https://datasheet.datasheetarchive.com/originals/distributors/SFDatasheet-7/sf-000140215.pdf; Height: 1.6mm; Mouser Part Number: 652-MF-NSMF200-2; Mouser Price/Stock: https://www.mouser.co.uk/ProductDetail/Bourns/MF-NSMF200-2?qs=49157WxD7wmY0%2FO7FNMvtw%3D%3D; Arrow Part Number: MF-NSMF200-2; Arrow Price/Stock: https://www.arrow.com/en/products/mf-nsmf200-2/bourns
footprint FUSC3216X160N
pins: 1, 2

## MLT-5020
designator BUZZER?
Buzzer; BOM_Manufacturer: HNDZ; BOM_Supplier: LCSC; BOM_Manufacturer Part: MLT-5020; BOM_Supplier Part: C94598; BOM_JLCPCB Part Class: Extended Part; spicePre: B; spiceSymbolName: MLT-5020
footprint BUZ-SMD_3P-L5.2-W5.2-P3.50-BR
pins: 1 NC, 2 +, 3 -

## MP1482DS-LF-Z
designator IC?
Integrated Circuit; Manufacturer_Name: Monolithic Power Systems (MPS); Datasheet Link: https://componentsearchengine.com/Datasheets/1/MP1482DS-LF-Z.pdf; Height: 1.75mm; Manufacturer_Part_Number: MP1482DS-LF-Z; Mouser Part Number: 946-MP1482DSLFZ; Mouser Price/Stock: https://www.mouser.co.uk/ProductDetail/Monolithic-Power-Systems-MPS/MP1482DS-LF-Z?qs=rC7bBWoQAAngL9SxJcU%252Bug%3D%3D
footprint SOIC127P600X175-8N
pins: 1 BS, 2 IN (in), 3 SW (out), 4 GND (power), 5 FB, 6 COMP, 7 EN, 8 SS

## MP5016HGQH-Z
designator IC?
Integrated Circuit; Manufacturer_Name: Monolithic Power Systems (MPS); Manufacturer_Part_Number: MP5016HGQH-Z; Description: Hot Swap Voltage Controllers 2.7 - 22V; Datasheet Link: https://componentsearchengine.com/Datasheets/1/MP5016HGQH-Z.pdf; Height: 0.9mm; Mouser Part Number: 946-MP5016HGQH-Z; Mouser Price/Stock: https://www.mouser.co.uk/ProductDetail/Monolithic-Power-Systems-MPS/MP5016HGQH-Z?qs=YCa%2FAAYMW00hGdkGCCsW%252Bw%3D%3D
footprint MP5016HGQHZ
pins: 1 VCC_1, 2 VCC_2, 3 GND, 4 ILIMIT, 5 MODE, 6 SOURCE_1, 7 SOURCE_2, 8 GATE, 9 EN, 10 DV/DT, A1 VCC_3, A7 SOURCE_3

## NC7SZ125M5X
designator IC?
Integrated Circuit; Manufacturer_Name: ON Semiconductor; Datasheet Link: https://www.onsemi.cn/PowerSolutions/document/NC7SZ125-D.PDF; Height: 1.1mm; Manufacturer_Part_Number: NC7SZ125M5X; Mouser Part Number: 512-NC7SZ125M5X; Mouser Price/Stock: https://www.mouser.co.uk/ProductDetail/ON-Semiconductor-Fairchild/NC7SZ125M5X?qs=WdhLxuNCrqJ8WiLMGsm%2F4Q%3D%3D; Arrow Part Number: NC7SZ125M5X; Arrow Price/Stock: https://www.arrow.com/en/products/nc7sz125m5x/on-semiconductor?region=nac
footprint SOT95P275X110-5N
pins: 1 ~{OE}, 2 A, 3 GND, 4 Y, 5 VCC

## NC7WZ07P6X
designator IC?
Integrated Circuit; Manufacturer_Name: ON Semiconductor; Datasheet Link: https://www.onsemi.com/pub/Collateral/NC7WZ07-D.pdf; Height: 1.1mm; Manufacturer_Part_Number: NC7WZ07P6X; Mouser Part Number: 512-NC7WZ07P6X; Mouser Price/Stock: https://www.mouser.co.uk/ProductDetail/ON-Semiconductor-Fairchild/NC7WZ07P6X?qs=utFvTgNEmG4U5hUjGf3BdQ%3D%3D; Arrow Part Number: NC7WZ07P6X; Arrow Price/Stock: https://www.arrow.com/en/products/nc7wz07p6x/on-semiconductor
footprint SOT65P210X110-6N
pins: 1 A1, 2 GND, 3 A2, 4 Y2, 5 VCC, 6 Y1

## NDS331N
designator Q?
MOSFET (N-Channel); Manufacturer_Name: ON Semiconductor; Datasheet Link: https://www.onsemi.com/pub/Collateral/NDS331N-D.PDF; Height: 1.12mm; Manufacturer_Part_Number: NDS331N; Mouser Part Number: 512-NDS331N; Mouser Price/Stock: https://www.mouser.co.uk/ProductDetail/ON-Semiconductor-Fairchild/NDS331N?qs=FOlmdCx%252BAA2del7Yv4IvDw%3D%3D
footprint SOT95P251X112-3N
pins: 1 G (in), 2 S (power), 3 D (power)

## PCA9517DGKR
designator IC?
Integrated Circuit; Manufacturer_Name: Texas Instruments; Datasheet Link: http://www.ti.com/lit/ds/symlink/pca9517.pdf; Height: 1.1mm; Manufacturer_Part_Number: PCA9517DGKR; Mouser Part Number: 595-PCA9517DGKR; Mouser Price/Stock: https://www.mouser.co.uk/ProductDetail/Texas-Instruments/PCA9517DGKR?qs=ToK3%2FczOkx%2FStDvA4PlbfA%3D%3D; Arrow Part Number: PCA9517DGKR; Arrow Price/Stock: https://www.arrow.com/en/products/pca9517dgkr/texas-instruments
footprint SOP65P490X110-8N
pins: 1 VCCA, 2 SCLA, 3 SDAA, 4 GND, 5 EN, 6 SDAB, 7 SCLB, 8 VCCB

## PTS120630V012
designator F?
Fuse; Manufacturer_Name: Eaton; Datasheet Link: https://componentsearchengine.com/Datasheets/2/PTS120630V012.pdf; Height: 0.9mm; Manufacturer_Part_Number: PTS120630V012; Mouser Part Number: 504-PTS120630V012; Mouser Price/Stock: https://www.mouser.co.uk/ProductDetail/Bussmann-Eaton/PTS120630V012?qs=QmibqUXyDhRHrC1SbxkW3w%3D%3D
footprint PTS120630V012
pins: 1, 2

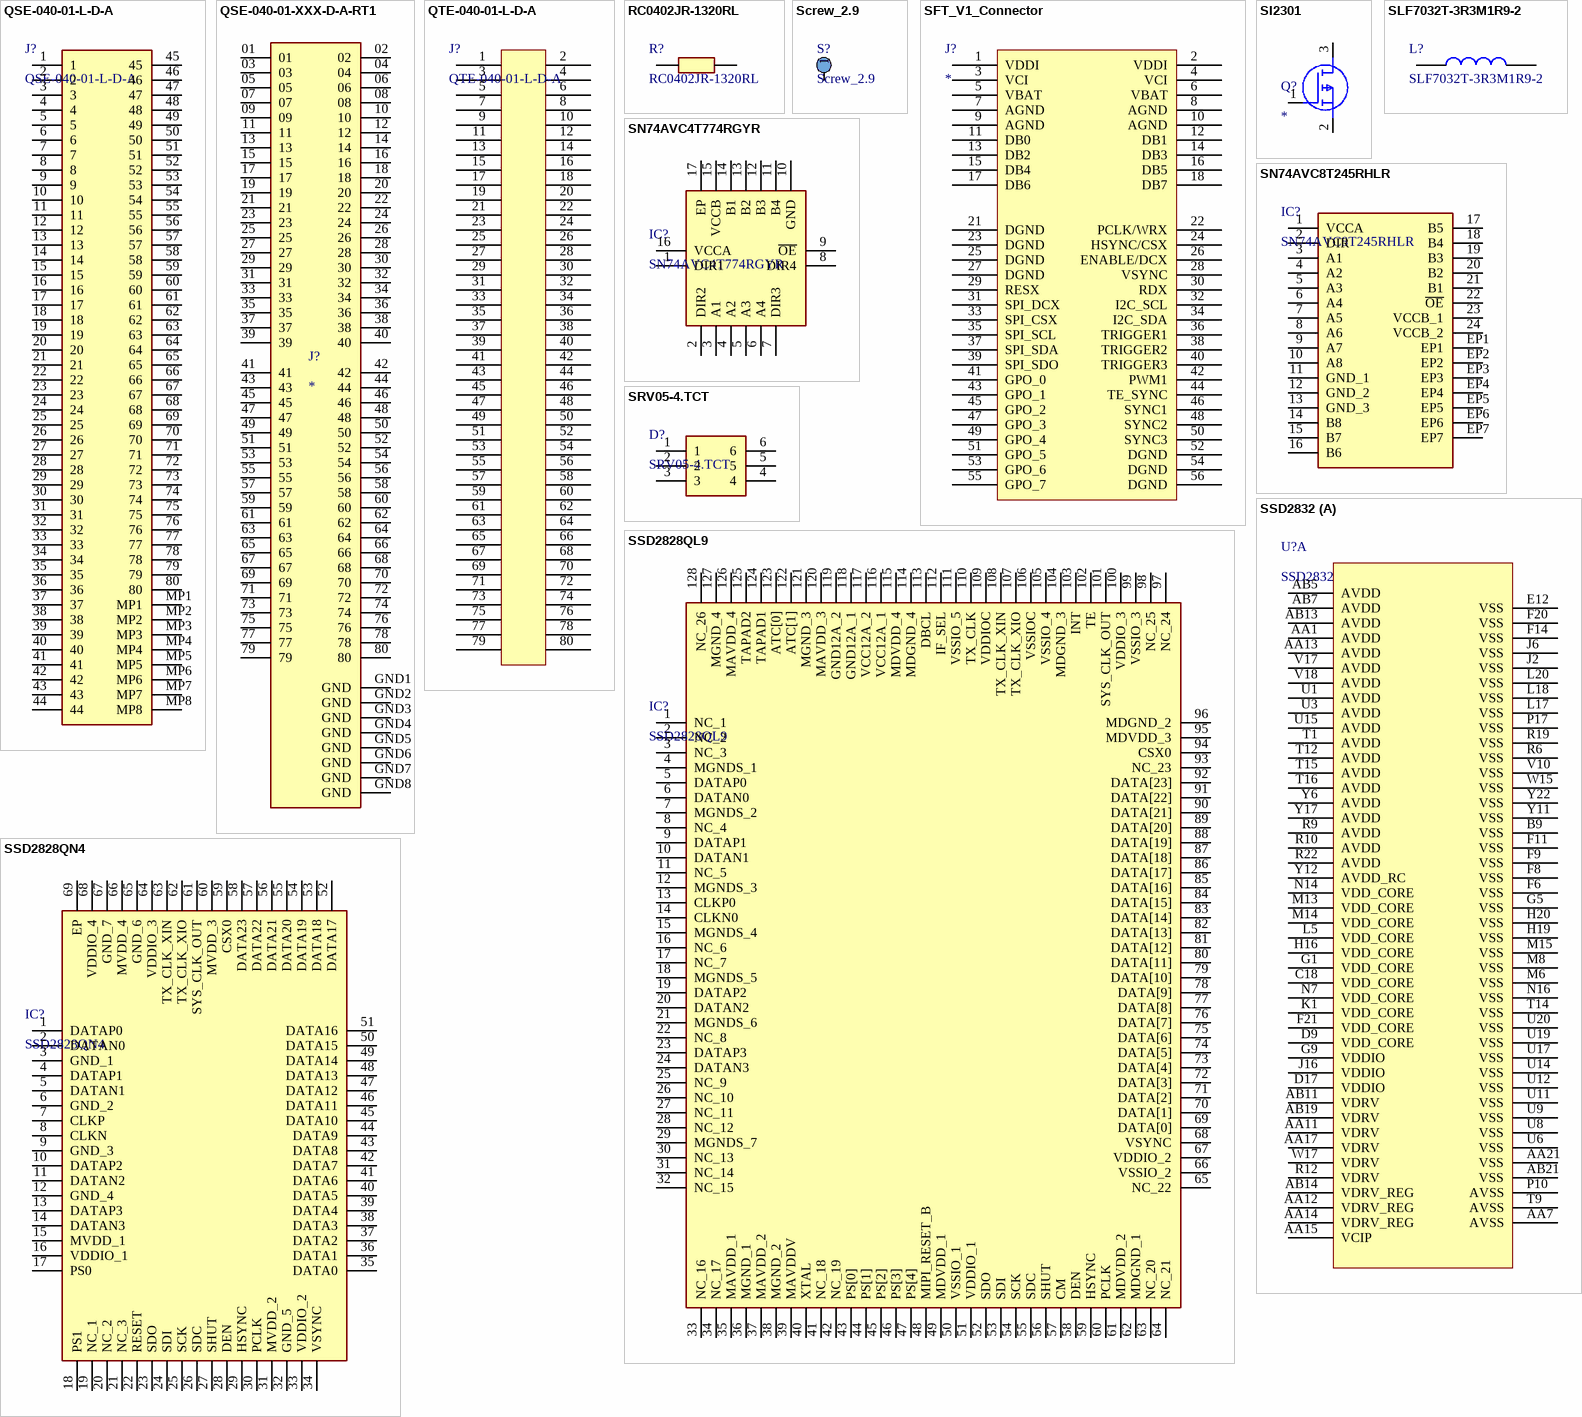
[diagram p2: symbols QSE-040-01-L-D-A to SSD2832]

## QSE-040-01-L-D-A
designator J?
Connector; Manufacturer_Name: SAMTEC; Datasheet Link: http://docs-emea.rs-online.com/webdocs/1404/0900766b814048b3.pdf; Height: 3.25mm; Manufacturer_Part_Number: QSE-040-01-L-D-A; Mouser Part Number: 200-QSE04001LDA; Mouser Price/Stock: https://www.mouser.co.uk/ProductDetail/Samtec/QSE-040-01-L-D-A?qs=rkdpAy2aP%2F9gG2yfQFue7A%3D%3D; Arrow Part Number: QSE-040-01-L-D-A; Arrow Price/Stock: https://www.arrow.com/en/products/qse-040-01-l-d-a/samtec
footprint QSE04001LDA
pins: 1, 2, 3, 4, 5, 6, 7, 8, 9, 10, 11, 12, 13, 14, 15, 16, 17, 18, 19, 20, 21, 22, 23, 24, 25, 26, 27, 28, 29, 30, 31, 32, 33, 34, 35, 36, 37, 38, 39, 40, 41, 42, 43, 44, 45, 46, 47, 48, 49, 50, 51, 52, 53, 54, 55, 56, 57, 58, 59, 60, 61, 62, 63, 64, 65, 66, 67, 68, 69, 70, 71, 72, 73, 74, 75, 76, 77, 78, 79, 80, MP1, MP2, MP3, MP4, MP5, MP6, MP7, MP8

## QSE-040-01-XXX-D-A-RT1
designator J?
80 Position Connector Receptacle, Center Strip Contacts Surface Mount Gold; MP: QSE-040-01-XXX-D-A-RT1; MF: Samtec; Package: None; Price: None; Availability: Unavailable; Value: *
footprint SAMTEC_QSE-040-01-XXX-D-A-RT1
pins: 01, 02, 03, 04, 05, 06, 07, 08, 09, 10, 11, 12, 13, 14, 15, 16, 17, 18, 19, 20, 21, 22, 23, 24, 25, 26, 27, 28, 29, 30, 31, 32, 33, 34, 35, 36, 37, 38, 39, 40, 41, 42, 43, 44, 45, 46, 47, 48, 49, 50, 51, 52, 53, 54, 55, 56, 57, 58, 59, 60, 61, 62, 63, 64, 65, 66, 67, 68, 69, 70, 71, 72, 73, 74, 75, 76, 77, 78, 79, 80, GND1 GND (power), GND2 GND (power), GND3 GND (power), GND4 GND (power), GND5 GND (power), GND6 GND (power), GND7 GND (power), GND8 GND (power)

## QTE-040-01-L-D-A
designator J?
Connector; Manufacturer_Name: SAMTEC; Datasheet Link: http://suddendocs.samtec.com/prints/qte-xxx-xx-xxx-d-xxx-mkt.pdf; Manufacturer_Part_Number: QTE-040-01-L-D-A; Mouser Part Number: 200-QTE04001LDA; Mouser Price/Stock: https://www.mouser.co.uk/ProductDetail/Samtec/QTE-040-01-L-D-A/?qs=jyzYFa4oMQjP49NfJ%252BD5sw%3D%3D; Arrow Part Number: QTE-040-01-L-D-A; Arrow Price/Stock: https://www.arrow.com/en/products/qte-040-01-l-d-a/samtec
footprint QTE-040-01-XXX-D-A_1
pins: 1, 2, 3, 4, 5, 6, 7, 8, 9, 10, 11, 12, 13, 14, 15, 16, 17, 18, 19, 20, 21, 22, 23, 24, 25, 26, 27, 28, 29, 30, 31, 32, 33, 34, 35, 36, 37, 38, 39, 40, 41, 42, 43, 44, 45, 46, 47, 48, 49, 50, 51, 52, 53, 54, 55, 56, 57, 58, 59, 60, 61, 62, 63, 64, 65, 66, 67, 68, 69, 70, 71, 72, 73, 74, 75, 76, 77, 78, 79, 80

## RC0402JR-1320RL
designator R?
Resistor; Manufacturer_Name: YAGEO (PHYCOMP); Datasheet Link: http://www.yageo.com/documents/recent/PYu-RC0402_51_RoHS_L_6_r.pdf; Height: 0.4mm; Manufacturer_Part_Number: RC0402JR-1320RL; Mouser Part Number: 603-RC0402JR-1320RL; Mouser Price/Stock: https://www.mouser.co.uk/ProductDetail/YAGEO/RC0402JR-1320RL?qs=qpJ%252B%252B%252Bdg6p3JDOvGKPULsg%3D%3D
footprint RES_0402
pins: 1, 2

## Screw_2.9
designator S?
footprint Screw_2.9
footprint HOLE-3.2MM_M
pins: 1

## SFT_V1_Connector
designator J?
SFT_V1_Connector
footprint SFT_V1_Connector
pins: 1 VDDI, 2 VDDI, 3 VCI, 4 VCI, 5 VBAT, 6 VBAT, 7 AGND, 8 AGND, 9 AGND, 10 AGND, 11 DB0, 12 DB1, 13 DB2, 14 DB3, 15 DB4, 16 DB5, 17 DB6, 18 DB7, 21 DGND, 22 PCLK/WRX, 23 DGND, 24 HSYNC/CSX, 25 DGND, 26 ENABLE/DCX, 27 DGND, 28 VSYNC, 29 RESX, 30 RDX, 31 SPI_DCX, 32 I2C_SCL, 33 SPI_CSX, 34 I2C_SDA, 35 SPI_SCL, 36 TRIGGER1, 37 SPI_SDA, 38 TRIGGER2, 39 SPI_SDO, 40 TRIGGER3, 41 GPO_0, 42 PWM1, 43 GPO_1, 44 TE_SYNC, 45 GPO_2, 46 SYNC1, 47 GPO_3, 48 SYNC2, 49 GPO_4, 50 SYNC3, 51 GPO_5, 52 DGND, 53 GPO_6, 54 DGND, 55 GPO_7, 56 DGND

## SI2301
designator Q?
MOSFET (P-Channel); Manufacturer_Name: Micro Commercial Components (MCC); Manufacturer_Part_Number: SI2301; Datasheet Link: https://mouser.componentsearchengine.com/Datasheets/1/SI2301.pdf; Mouser Part Number: 833-SI2301; Mouser Price/Stock: https://www.mouser.co.uk/ProductDetail/Micro-Commercial-Components-MCC/SI2301?qs=6W4OQKoqJ0vnr93btiHXdQ%3D%3D
footprint SI2305TP
pins: 1 G, 2 S, 3 D

## SLF7032T-3R3M1R9-2
designator L?
Inductor; Manufacturer_Name: TDK; Datasheet Link: https://www.mouser.com/catalog/specsheets/tdk_e531_slf.pdf; Manufacturer_Part_Number: SLF7032T-3R3M1R9-2
footprint SLF7032/7045
pins: 1, 2

## SN74AVC4T774RGYR
designator IC?
Integrated Circuit; Manufacturer_Name: Texas Instruments; Datasheet Link: http://www.ti.com/lit/gpn/sn74avc4t774; Height: 1mm; Manufacturer_Part_Number: SN74AVC4T774RGYR; Mouser Part Number: 595-SN74AVC4T774RGYR; Mouser Price/Stock: https://www.mouser.co.uk/ProductDetail/Texas-Instruments/SN74AVC4T774RGYR?qs=WxL8HmPi5r6G66sTYU1Ttg%3D%3D; Arrow Part Number: SN74AVC4T774RGYR; Arrow Price/Stock: https://www.arrow.com/en/products/sn74avc4t774rgyr/texas-instruments
footprint SN74AVC4T774RGYR
pins: 1 DIR1, 2 DIR2, 3 A1, 4 A2, 5 A3, 6 A4, 7 DIR3, 8 DIR4, 9 ~{OE}, 10 GND, 11 B4, 12 B3, 13 B2, 14 B1, 15 VCCB, 16 VCCA, 17 EP

## SN74AVC8T245RHLR
designator IC?
Integrated Circuit; Manufacturer_Name: Texas Instruments; Datasheet Link: http://www.ti.com/general/docs/suppproductinfo.tsp?distId=10&gotoUrl=http%3A%2F%2Fwww.ti.com%2Flit%2Fgpn%2Fsn74avc8t245; Height: 1mm; Manufacturer_Part_Number: SN74AVC8T245RHLR; Mouser Part Number: 595-SN74AVC8T245RHLR; Mouser Price/Stock: https://www.mouser.co.uk/ProductDetail/Texas-Instruments/SN74AVC8T245RHLR?qs=X3IDIfI%252BJAVUeSiBCLv8pA%3D%3D; Arrow Part Number: SN74AVC8T245RHLR; Arrow Price/Stock: https://www.arrow.com/en/products/sn74avc8t245rhlr/texas-instruments
footprint SN74AVC8T245RHLR
pins: 1 VCCA, 2 DIR, 3 A1, 4 A2, 5 A3, 6 A4, 7 A5, 8 A6, 9 A7, 10 A8, 11 GND_1, 12 GND_2, 13 GND_3, 14 B8, 15 B7, 16 B6, 17 B5, 18 B4, 19 B3, 20 B2, 21 B1, 22 ~{OE}, 23 VCCB_1, 24 VCCB_2, EP1, EP2, EP3, EP4, EP5, EP6, EP7

## SRV05-4.TCT
designator D?
TVS Diode (Uni-directional); Manufacturer_Name: SEMTECH; Datasheet Link: https://www.semtech.com/uploads/documents/srv05-4.pdf; Height: 1.45mm; Manufacturer_Part_Number: SRV05-4.TCT; Mouser Part Number: 947-SRV05-4.TCT; Mouser Price/Stock: https://www.mouser.co.uk/ProductDetail/Semtech/SRV05-4TCT?qs=rBWM4%252BvDhIe0tfPjqKjR5Q%3D%3D; Arrow Part Number: SRV05-4.TCT; Arrow Price/Stock: https://www.arrow.com/en/products/srv05-4.tct/semtech?region=nac
footprint SOT95P280X145-6N
pins: 1, 2, 3, 4, 5, 6

## SSD2828QL9
designator IC?
Integrated Circuit; Manufacturer_Name: Solomon Systech; Height: 1.6mm; Manufacturer_Part_Number: SSD2828QL9
footprint QFP40P1600X1600X160-128N
pins: 1 NC_1, 2 NC_2, 3 NC_3, 4 MGNDS_1, 5 DATAP0, 6 DATAN0, 7 MGNDS_2, 8 NC_4, 9 DATAP1, 10 DATAN1, 11 NC_5, 12 MGNDS_3, 13 CLKP0, 14 CLKN0, 15 MGNDS_4, 16 NC_6, 17 NC_7, 18 MGNDS_5, 19 DATAP2, 20 DATAN2, 21 MGNDS_6, 22 NC_8, 23 DATAP3, 24 DATAN3, 25 NC_9, 26 NC_10, 27 NC_11, 28 NC_12, 29 MGNDS_7, 30 NC_13, 31 NC_14, 32 NC_15, 33 NC_16, 34 NC_17, 35 MAVDD_1, 36 MGND_1, 37 MAVDD_2, 38 MGND_2, 39 MAVDDV, 40 XTAL, 41 NC_18, 42 NC_19, 43 PS[0], 44 PS[1], 45 PS[2], 46 PS[3], 47 PS[4], 48 MIPI_RESET_B, 49 MDVDD_1, 50 VSSIO_1, 51 VDDIO_1, 52 SDO, 53 SDI, 54 SCK, 55 SDC, 56 SHUT, 57 CM, 58 DEN, 59 HSYNC, 60 PCLK, 61 MDVDD_2, 62 MDGND_1, 63 NC_20, 64 NC_21, 65 NC_22, 66 VSSIO_2, 67 VDDIO_2, 68 VSYNC, 69 DATA[0], 70 DATA[1], 71 DATA[2], 72 DATA[3], 73 DATA[4], 74 DATA[5], 75 DATA[6], 76 DATA[7], 77 DATA[8], 78 DATA[9], 79 DATA[10], 80 DATA[11], 81 DATA[12], 82 DATA[13], 83 DATA[14], 84 DATA[15], 85 DATA[16], 86 DATA[17], 87 DATA[18], 88 DATA[19], 89 DATA[20], 90 DATA[21], 91 DATA[22], 92 DATA[23], 93 NC_23, 94 CSX0, 95 MDVDD_3, 96 MDGND_2, 97 NC_24, 98 NC_25, 99 VSSIO_3, 100 VDDIO_3, 101 SYS_CLK_OUT, 102 TE, 103 INT, 104 MDGND_3, 105 VSSIO_4, 106 VSSIOC, 107 TX_CLK_XIO, 108 TX_CLK_XIN, 109 VDDIOC, 110 TX_CLK, 111 VSSIO_5, 112 IF_SEL, 113 DBCL, 114 MDGND_4, 115 MDVDD_4, 116 VCC12A_1, 117 VCC12A_2, 118 GND12A_1, 119 GND12A_2, 120 MAVDD_3, 121 MGND_3, 122 ATC[1], 123 ATC[0], 124 TAPAD1, 125 TAPAD2, 126 MAVDD_4, 127 MGND_4, 128 NC_26

## SSD2828QN4
designator IC?
Integrated Circuit; Manufacturer_Name: Solomon Systech; Datasheet Link: https://datasheet.lcsc.com/szlcsc/SSD2828QN4_C48596.pdf; Height: 0.9mm; Manufacturer_Part_Number: SSD2828QN4
footprint QFN40P800X800X90-69N-D
pins: 1 DATAP0, 2 DATAN0, 3 GND_1, 4 DATAP1, 5 DATAN1, 6 GND_2, 7 CLKP, 8 CLKN, 9 GND_3, 10 DATAP2, 11 DATAN2, 12 GND_4, 13 DATAP3, 14 DATAN3, 15 MVDD_1, 16 VDDIO_1, 17 PS0, 18 PS1, 19 NC_1, 20 NC_2, 21 NC_3, 22 RESET, 23 SDO, 24 SDI, 25 SCK, 26 SDC, 27 SHUT, 28 DEN, 29 HSYNC, 30 PCLK, 31 MVDD_2, 32 GND_5, 33 VDDIO_2, 34 VSYNC, 35 DATA0, 36 DATA1, 37 DATA2, 38 DATA3, 39 DATA4, 40 DATA5, 41 DATA6, 42 DATA7, 43 DATA8, 44 DATA9, 45 DATA10, 46 DATA11, 47 DATA12, 48 DATA13, 49 DATA14, 50 DATA15, 51 DATA16, 52 DATA17, 53 DATA18, 54 DATA19, 55 DATA20, 56 DATA21, 57 DATA22, 58 DATA23, 59 CSX0, 60 MVDD_3, 61 SYS_CLK_OUT, 62 TX_CLK_XIO, 63 TX_CLK_XIN, 64 VDDIO_3, 65 GND_6, 66 MVDD_4, 67 GND_7, 68 VDDIO_4, 69 EP

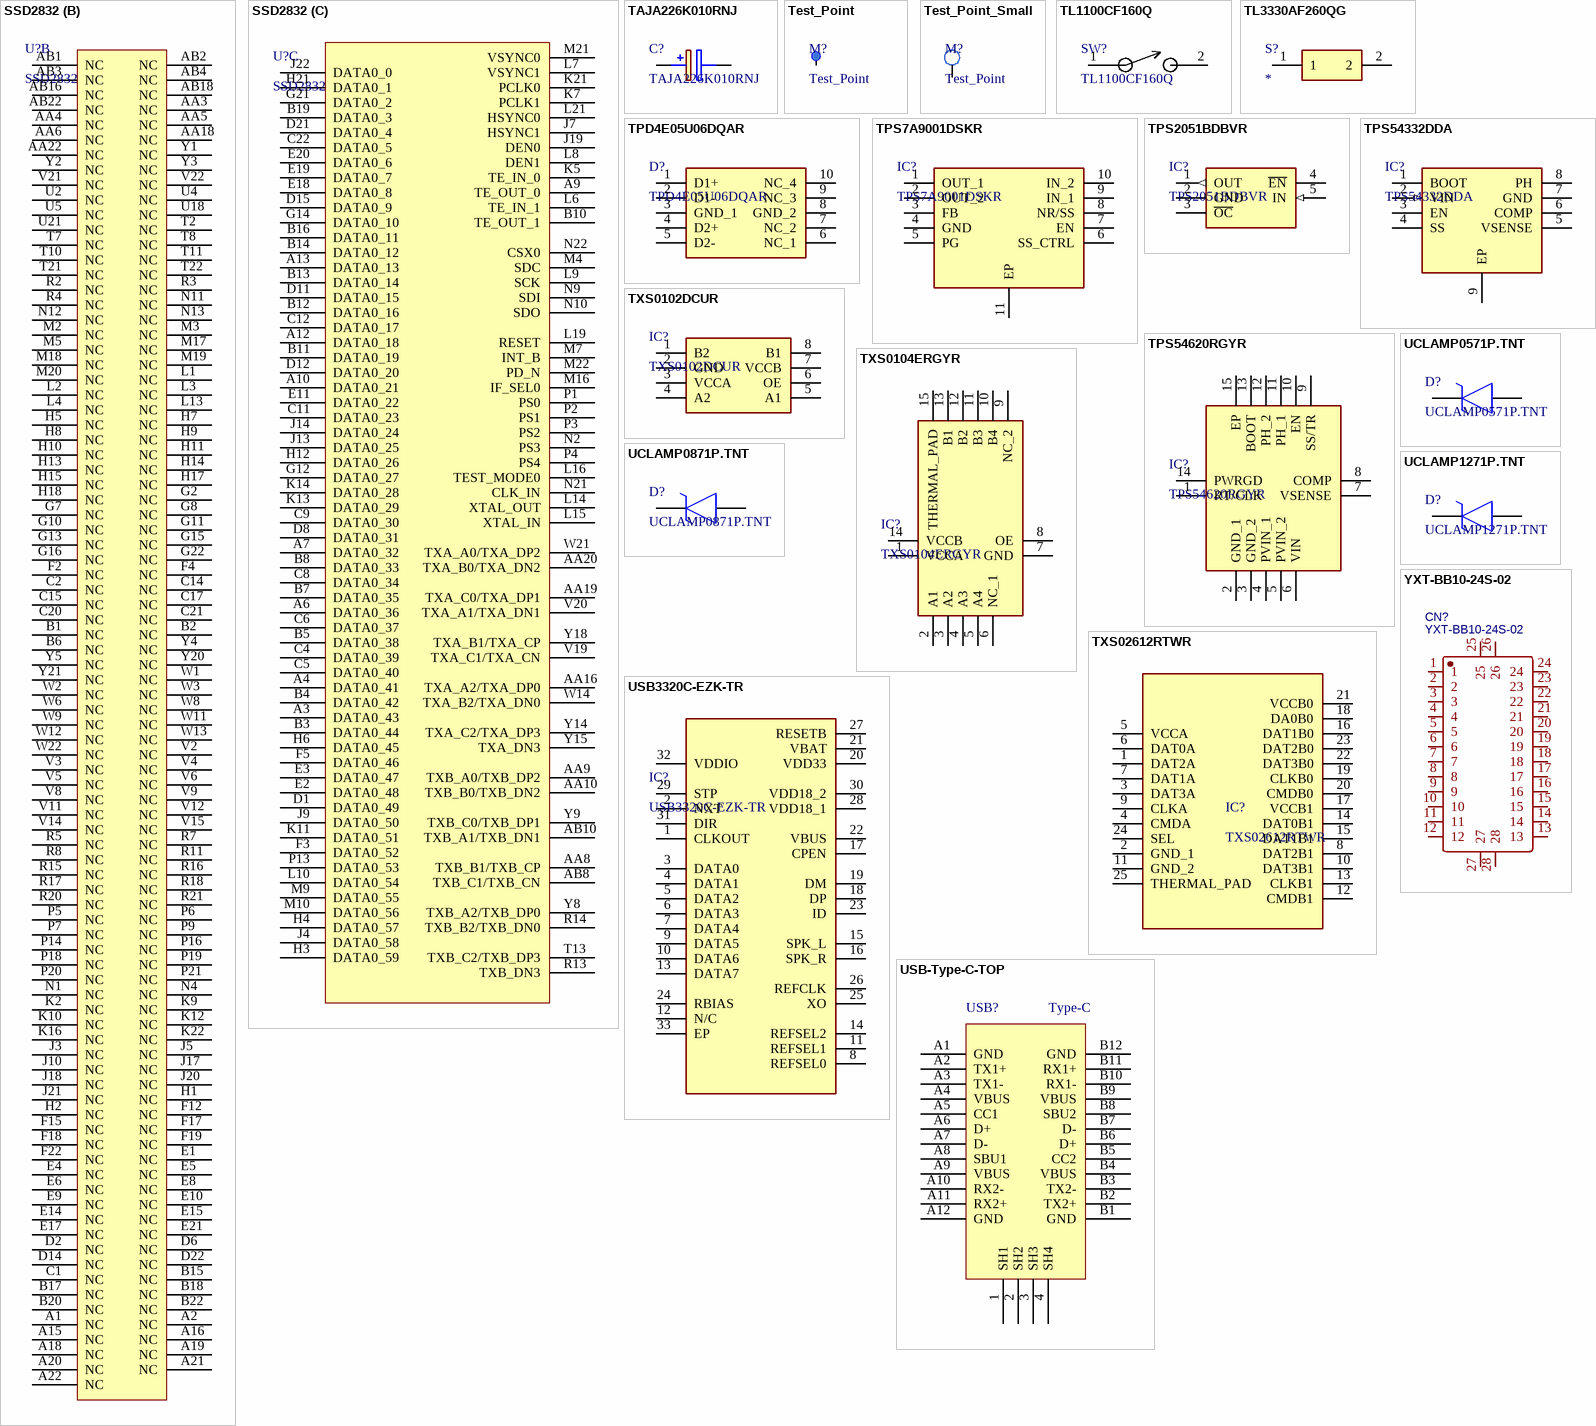
[diagram p3: symbols SSD2832 to YXT-BB10-24S-02]

## SSD2832
designator U?
footprint BGA484x22
part A pins: AA1 AVDD, AA7 AVSS, AA11 VDRV, AA12 VDRV_REG, AA13 AVDD, AA14 VDRV_REG, AA15 VCIP, AA17 VDRV, AA21 VSS, AB5 AVDD, AB7 AVDD, AB11 VDRV, AB13 AVDD, AB14 VDRV_REG, AB19 VDRV, AB21 VSS, B9 VSS, C18 VDD_CORE, D9 VDD_CORE, D17 VDDIO, E12 VSS, F6 VSS, F8 VSS, F9 VSS, F11 VSS, F14 VSS, F20 VSS, F21 VDD_CORE, G1 VDD_CORE, G5 VSS, G9 VDDIO, H16 VDD_CORE, H19 VSS, H20 VSS, J2 VSS, J6 VSS, J16 VDDIO, K1 VDD_CORE, L5 VDD_CORE, L17 VSS, L18 VSS, L20 VSS, M6 VSS, M8 VSS, M13 VDD_CORE, M14 VDD_CORE, M15 VSS, N7 VDD_CORE, N14 VDD_CORE, N16 VSS, P10 AVSS, P17 VSS, R6 VSS, R9 AVDD, R10 AVDD, R12 VDRV, R19 VSS, R22 AVDD, T1 AVDD, T9 AVSS, T12 AVDD, T14 VSS, T15 AVDD, T16 AVDD, U1 AVDD, U3 AVDD, U6 VSS, U8 VSS, U9 VSS, U11 VSS, U12 VSS, U14 VSS, U15 AVDD, U17 VSS, U19 VSS, U20 VSS, V10 VSS, V17 AVDD, V18 AVDD, W15 VSS, W17 VDRV, Y6 AVDD, Y11 VSS, Y12 AVDD_RC, Y17 AVDD, Y22 VSS
part B pins: A1 NC, A2 NC, A15 NC, A16 NC, A18 NC, A19 NC, A20 NC, A21 NC, A22 NC, AA3 NC, AA4 NC, AA5 NC, AA6 NC, AA18 NC, AA22 NC, AB1 NC, AB2 NC, AB3 NC, AB4 NC, AB16 NC, AB18 NC, AB22 NC, B1 NC, B2 NC, B6 NC, B15 NC, B17 NC, B18 NC, B20 NC, B22 NC, C1 NC, C2 NC, C14 NC, C15 NC, C17 NC, C20 NC, C21 NC, D2 NC, D6 NC, D14 NC, D22 NC, E1 NC, E4 NC, E5 NC, E6 NC, E8 NC, E9 NC, E10 NC, E14 NC, E15 NC, E17 NC, E21 NC, F2 NC, F4 NC, F12 NC, F15 NC, F17 NC, F18 NC, F19 NC, F22 NC, G2 NC, G7 NC, G8 NC, G10 NC, G11 NC, G13 NC, G15 NC, G16 NC, G22 NC, H1 NC, H2 NC, H5 NC, H7 NC, H8 NC, H9 NC, H10 NC, H11 NC, H13 NC, H14 NC, H15 NC, H17 NC, H18 NC, J3 NC, J5 NC, J10 NC, J17 NC, J18 NC, J20 NC, J21 NC, K2 NC, K9 NC, K10 NC, K12 NC, K16 NC, K22 NC, L1 NC, L2 NC, L3 NC, L4 NC, L13 NC, M2 NC, M3 NC, M5 NC, M17 NC, M18 NC, M19 NC, M20 NC, N1 NC, N4 NC, N11 NC, N12 NC, N13 NC, P5 NC, P6 NC, P7 NC, P9 NC, P14 NC, P16 NC, P18 NC, P19 NC, P20 NC, P21 NC, R2 NC, R3 NC, R4 NC, R5 NC, R7 NC, R8 NC, R11 NC, R15 NC, R16 NC, R17 NC, R18 NC, R20 NC, R21 NC, T2 NC, T7 NC, T8 NC, T10 NC, T11 NC, T21 NC, T22 NC, U2 NC, U4 NC, U5 NC, U18 NC, U21 NC, V2 NC, V3 NC, V4 NC, V5 NC, V6 NC, V8 NC, V9 NC, V11 NC, V12 NC, V14 NC, V15 NC, V21 NC, V22 NC, W1 NC, W2 NC, W3 NC, W6 NC, W8 NC, W9 NC, W11 NC, W12 NC, W13 NC, W22 NC, Y1 NC, Y2 NC, Y3 NC, Y4 NC, Y5 NC, Y20 NC, Y21 NC
part C pins: A3 DATA0_43, A4 DATA0_41, A6 DATA0_36, A7 DATA0_32, A9 TE_OUT_0, A10 DATA0_21, A12 DATA0_18, A13 DATA0_13, AA8 TXB_B1/TXB_CP, AA9 TXB_A0/TXB_DP2, AA10 TXB_B0/TXB_DN2, AA16 TXA_A2/TXA_DP0, AA19 TXA_C0/TXA_DP1, AA20 TXA_B0/TXA_DN2, AB8 TXB_C1/TXB_CN, AB10 TXB_A1/TXB_DN1, B3 DATA0_44, B4 DATA0_42, B5 DATA0_38, B7 DATA0_35, B8 DATA0_33, B10 TE_OUT_1, B11 DATA0_19, B12 DATA0_16, B13 DATA0_14, B14 DATA0_12, B16 DATA0_11, B19 DATA0_3, C4 DATA0_39, C5 DATA0_40, C6 DATA0_37, C8 DATA0_34, C9 DATA0_30, C11 DATA0_23, C12 DATA0_17, C22 DATA0_5, D1 DATA0_49, D8 DATA0_31, D11 DATA0_15, D12 DATA0_20, D15 DATA0_9, D21 DATA0_4, E2 DATA0_48, E3 DATA0_47, E11 DATA0_22, E18 DATA0_8, E19 DATA0_7, E20 DATA0_6, F3 DATA0_52, F5 DATA0_46, G12 DATA0_27, G14 DATA0_10, G21 DATA0_2, H3 DATA0_59, H4 DATA0_57, H6 DATA0_45, H12 DATA0_26, H21 DATA0_1, J4 DATA0_58, J7 HSYNC1, J9 DATA0_50, J13 DATA0_25, J14 DATA0_24, J19 DEN0, J22 DATA0_0, K5 TE_IN_0, K7 PCLK1, K11 DATA0_51, K13 DATA0_29, K14 DATA0_28, K21 PCLK0, L6 TE_IN_1, L7 VSYNC1, L8 DEN1, L9 SCK, L10 DATA0_54, L14 XTAL_OUT, L15 XTAL_IN, L16 TEST_MODE0, L19 RESET, L21 HSYNC0, M4 SDC, M7 INT_B, M9 DATA0_55, M10 DATA0_56, M16 IF_SEL0, M21 VSYNC0, M22 PD_N, N2 PS3, N9 SDI, N10 SDO, N21 CLK_IN, N22 CSX0, P1 PS0, P2 PS1, P3 PS2, P4 PS4, P13 DATA0_53, R13 TXB_DN3, R14 TXB_B2/TXB_DN0, T13 TXB_C2/TXB_DP3, V19 TXA_C1/TXA_CN, V20 TXA_A1/TXA_DN1, W14 TXA_B2/TXA_DN0, W21 TXA_A0/TXA_DP2, Y8 TXB_A2/TXB_DP0, Y9 TXB_C0/TXB_DP1, Y14 TXA_C2/TXA_DP3, Y15 TXA_DN3, Y18 TXA_B1/TXA_CP

## TAJA226K010RNJ
designator C?
Capacitor Polarised; Manufacturer_Name: AVX; Datasheet Link: http://www.farnell.com/datasheets/1680476.pdf; Height: 1.8mm; Manufacturer_Part_Number: TAJA226K010RNJ; Mouser Part Number: 581-TAJA226K010R; Mouser Price/Stock: https://www.mouser.co.uk/ProductDetail/AVX/TAJA226K010RNJ?qs=ZfDiupplM3QM%252BN91%252BvwCuQ%3D%3D; Arrow Part Number: TAJA226K010RNJ; Arrow Price/Stock: https://www.arrow.com/en/products/taja226k010rnj/avx
footprint CAPPM3216X180N
footprint CAPPM3528X210N
pins: 1 +, 2 -

## Test_Point
designator M?
footprint MARK
footprint TP-PIN
footprint TP_Via
footprint MARK_Small (MARK)
pins: 1

## Test_Point_Small
designator M?, comment Test_Point
footprint MARK_Small (MARK)
pins: 1

## TL1100CF160Q
designator SW?
Button; Mfr_Name: NKK Switches; Manufacturer_Part_Number: JB15KH-6C; Copyright: Copyright (C) 2021 Ultra Librarian. All rights reserved.; RefDes: RefDes; Type: DEV
footprint TL1100CF160Q
pins: 1, 2

## TL3330AF260QG
designator S?
Switch; Manufacturer_Name: E-Switch; Manufacturer_Part_Number: TL3330AF260QG; Datasheet Link: https://datasheet.datasheetarchive.com/originals/distributors/SFDatasheet-1/sf-00021243.pdf; Mouser Part Number: 612-TL3330AF260QG; Mouser Price/Stock: https://www.mouser.co.uk/ProductDetail/E-Switch/TL3330AF260QG?qs=cyOInwlKnROnXHK5BnOqnQ%3D%3D
footprint TL3330
pins: 1, 2

## TPD4E05U06DQAR
designator D?
Diode; Manufacturer_Name: Texas Instruments; Datasheet Link: http://www.ti.com/lit/gpn/tpd4e05u06; Manufacturer_Part_Number: TPD4E05U06DQAR; Mouser Part Number: 595-TPD4E05U06DQAR; Mouser Price/Stock: https://www.mouser.co.uk/ProductDetail/Texas-Instruments/TPD4E05U06DQAR?qs=%2FCrDlo5IrVPi4woOvWz0qA%3D%3D; Arrow Part Number: TPD4E05U06DQAR; Arrow Price/Stock: https://www.arrow.com/en/products/tpd4e05u06dqar/texas-instruments?region=nac
footprint DQA(R-PUSON-N10)
pins: 1 D1+, 2 D1-, 3 GND_1, 4 D2+, 5 D2-, 6 NC_1, 7 NC_2, 8 GND_2, 9 NC_3, 10 NC_4

## TPS7A9001DSKR
designator IC?
Integrated Circuit; Manufacturer_Name: Texas Instruments; Datasheet Link: http://www.ti.com/lit/ds/symlink/tps7a90.pdf; Height: 0.8mm; Manufacturer_Part_Number: TPS7A9001DSKR; Mouser Part Number: 595-TPS7A9001DSKR; Mouser Price/Stock: https://www.mouser.co.uk/ProductDetail/Texas-Instruments/TPS7A9001DSKR?qs=HXFqYaX1Q2yNBmXsSlbG3g%3D%3D; Arrow Part Number: TPS7A9001DSKR; Arrow Price/Stock: https://www.arrow.com/en/products/tps7a9001dskr/texas-instruments?region=nac
footprint SON50P250X250X80-11N-D
pins: 1 OUT_1, 2 OUT_2, 3 FB, 4 GND, 5 PG, 6 SS_CTRL, 7 EN, 8 NR/SS, 9 IN_1, 10 IN_2, 11 EP

## TPS2051BDBVR
designator IC?
Integrated Circuit; Manufacturer_Name: Texas Instruments; Datasheet Link: http://www.ti.com/lit/ds/symlink/tps2051b.pdf; Height: 1.45mm; Manufacturer_Part_Number: TPS2051BDBVR; Mouser Part Number: 595-TPS2051BDBVR; Mouser Price/Stock: https://www.mouser.co.uk/ProductDetail/Texas-Instruments/TPS2051BDBVR?qs=7kv20MEVUljVx%2Fqc0C%252Bidw%3D%3D; Arrow Part Number: TPS2051BDBVR; Arrow Price/Stock: https://www.arrow.com/en/products/tps2051bdbvr/texas-instruments?region=nac
footprint SOT95P280X145-5N
pins: 1 OUT (out), 2 GND (power), 3 ~{OC}, 4 ~{EN}, 5 IN (in)

## TPS54332DDA
designator IC?
Integrated Circuit; Manufacturer_Name: Texas Instruments; Datasheet Link: http://www.ti.com/lit/ds/symlink/tps54332.pdf; Height: 1.7mm; Manufacturer_Part_Number: TPS54332DDA; Mouser Part Number: 595-TPS54332DDA; Mouser Price/Stock: https://www.mouser.co.uk/ProductDetail/Texas-Instruments/TPS54332DDA?qs=uxmOeTEqoPwp5rNW7uC%2FUw%3D%3D; Arrow Part Number: TPS54332DDA; Arrow Price/Stock: https://www.arrow.com/en/products/tps54332dda/texas-instruments?region=nac
footprint SOIC127P600X170-9N
pins: 1 BOOT, 2 VIN (in), 3 EN, 4 SS, 5 VSENSE, 6 COMP, 7 GND (power), 8 PH, 9 EP (power)

## TPS54620RGYR
designator IC?
Integrated Circuit; Manufacturer_Name: Texas Instruments; Datasheet Link: http://www.ti.com/lit/gpn/tps54620; Height: 1mm; Manufacturer_Part_Number: TPS54620RGYR; Mouser Part Number: 595-TPS54620RGYR; Mouser Price/Stock: https://www.mouser.co.uk/ProductDetail/Texas-Instruments/TPS54620RGYR?qs=bS0R8qMSxJNDgADwHBeVsw%3D%3D; Arrow Part Number: TPS54620RGYR; Arrow Price/Stock: https://www.arrow.com/en/products/tps54620rgyr/texas-instruments?region=nac
footprint SN74CBT3126RGYR
pins: 1 RT/CLK, 2 GND_1, 3 GND_2, 4 PVIN_1, 5 PVIN_2, 6 VIN, 7 VSENSE, 8 COMP, 9 SS/TR, 10 EN, 11 PH_1, 12 PH_2, 13 BOOT, 14 PWRGD, 15 EP